# Altium integrated library Xilinx PLD XC9500XL.IntLib: 85 symbols (part 1 of 5)
Pins are listed as number, name and electrical type; pins without a type are passive.

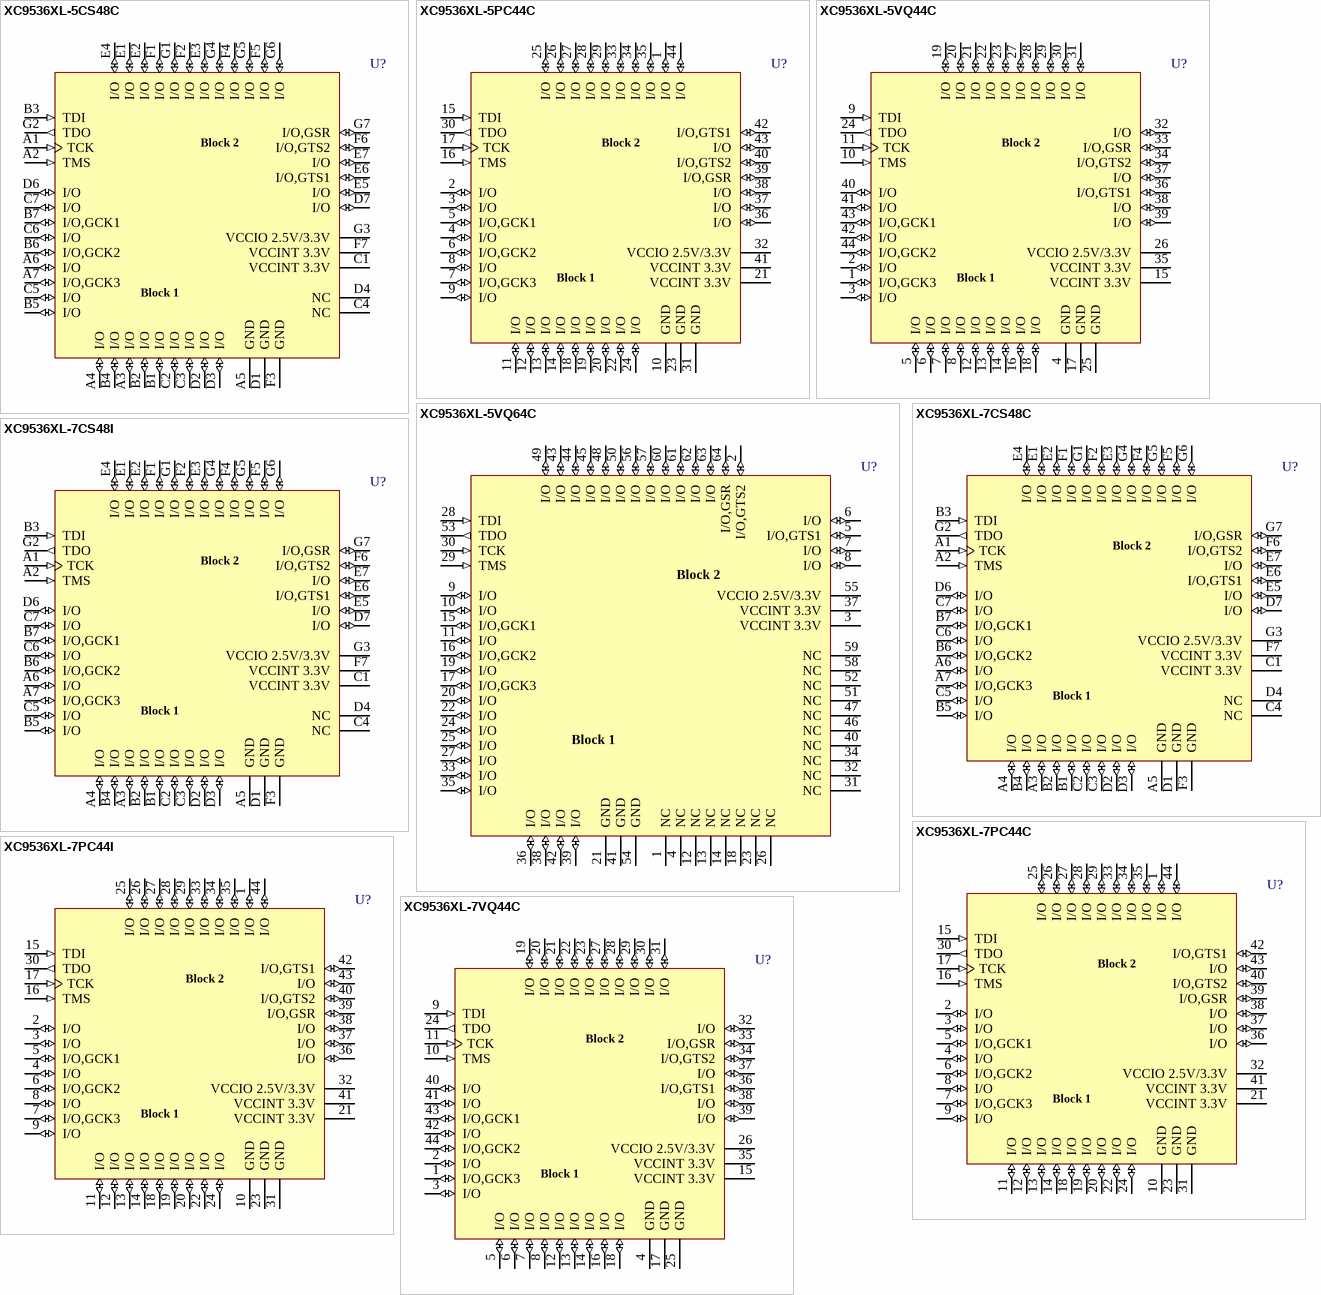
[diagram p0: symbols XC9536XL-5CS48C to XC9536XL-7VQ44C]

## XC9536XL-5CS48C
designator U?
FastFLASH XC900XL, 3.3V High-Performance CPLD with 36 Macrocells, 48-Ball CSBGA, Commercial Grade; PackageDocument: ver1.1, Apr-2001; Published: 17-Jul-2002; DatasheetDocument: ver1.4, Aug-2003; PackageReference: CS48; Publisher: Altium Limited
footprint CS48 (48-Ball Chip Scale Ball Grid Array (CS48))
3D model XC9536XL-CS48 (48-Ball Chip Scale Ball Grid Array (CS48))
signal-integrity model XC9536XL_CS48 (XC9500XL)
pins: A1 TCK (in), A2 TMS (in), A3 I/O (io), A4 I/O (io), A5 GND (power), A6 I/O (io), A7 I/O,GCK3 (io), B1 I/O (io), B2 I/O (io), B3 TDI (in), B4 I/O (io), B5 I/O (io), B6 I/O,GCK2 (io), B7 I/O,GCK1 (io), C1 VCCINT 3.3V (power), C2 I/O (io), C3 I/O (io), C4 NC, C5 I/O (io), C6 I/O (io), C7 I/O (io), D1 GND (power), D2 I/O (io), D3 I/O (io), D4 NC, D6 I/O (io), D7 I/O (io), E1 I/O (io), E2 I/O (io), E3 I/O (io), E4 I/O (io), E5 I/O (io), E6 I/O,GTS1 (io), E7 I/O (io), F1 I/O (io), F2 I/O (io), F3 GND (power), F4 I/O (io), F5 I/O (io), F6 I/O,GTS2 (io), F7 VCCINT 3.3V (power), G1 I/O (io), G2 TDO (out), G3 VCCIO 2.5V/3.3V (power), G4 I/O (io), G5 I/O (io), G6 I/O (io), G7 I/O,GSR (io)
text: Block 2; Block 1

## XC9536XL-5PC44C
designator U?
FastFLASH XC900XL, 3.3V High-Performance CPLD with 36 Macrocells, 44-Pin PLCC, Commercial Grade; PackageDocument: ver1.0, Jun-2000; Published: 17-Jul-2002; DatasheetDocument: ver1.4, Aug-2003; PackageReference: PC44; Publisher: Altium Limited; Code_JEDEC: MS-047; Code_IPC: PLCC-44
footprint PC44 (44-Pin Plastic Leaded Chip Carrier (PC44))
3D model XC9536XL-PC44 (44-Pin Plastic Leaded Chip Carrier (PC44))
signal-integrity model XC9536XL_PLCC44 (XC9500XL)
pins: 1 I/O (io), 2 I/O (io), 3 I/O (io), 4 I/O (io), 5 I/O,GCK1 (io), 6 I/O,GCK2 (io), 7 I/O,GCK3 (io), 8 I/O (io), 9 I/O (io), 10 GND (power), 11 I/O (io), 12 I/O (io), 13 I/O (io), 14 I/O (io), 15 TDI (in), 16 TMS (in), 17 TCK (in), 18 I/O (io), 19 I/O (io), 20 I/O (io), 21 VCCINT 3.3V (power), 22 I/O (io), 23 GND (power), 24 I/O (io), 25 I/O (io), 26 I/O (io), 27 I/O (io), 28 I/O (io), 29 I/O (io), 30 TDO (out), 31 GND (power), 32 VCCIO 2.5V/3.3V (power), 33 I/O (io), 34 I/O (io), 35 I/O (io), 36 I/O (io), 37 I/O (io), 38 I/O (io), 39 I/O,GSR (io), 40 I/O,GTS2 (io), 41 VCCINT 3.3V (power), 42 I/O,GTS1 (io), 43 I/O (io), 44 I/O (io)
text: Block 2; Block 1

## XC9536XL-5VQ44C
designator U?
FastFLASH XC900XL, 3.3V High-Performance CPLD with 36 Macrocells, 44-Pin VQFP, Commercial Grade; PackageDocument: ver1.1, Oct-2002; Published: 17-Jul-2002; DatasheetDocument: ver1.4, Aug-2003; PackageReference: VQ44; Publisher: Altium Limited; Code_JEDEC: MS-026-ACB
footprint VQ44 (44-Pin Very Thin Quad Flat Pack (VQ44))
3D model XC9536XL-VQ44 (44-Pin Very Thin Quad Flat Pack (VQ44))
signal-integrity model XC9536XL_VQ44 (XC9500XL)
pins: 1 I/O,GCK3 (io), 2 I/O (io), 3 I/O (io), 4 GND (power), 5 I/O (io), 6 I/O (io), 7 I/O (io), 8 I/O (io), 9 TDI (in), 10 TMS (in), 11 TCK (in), 12 I/O (io), 13 I/O (io), 14 I/O (io), 15 VCCINT 3.3V (power), 16 I/O (io), 17 GND (power), 18 I/O (io), 19 I/O (io), 20 I/O (io), 21 I/O (io), 22 I/O (io), 23 I/O (io), 24 TDO (out), 25 GND (power), 26 VCCIO 2.5V/3.3V (power), 27 I/O (io), 28 I/O (io), 29 I/O (io), 30 I/O (io), 31 I/O (io), 32 I/O (io), 33 I/O,GSR (io), 34 I/O,GTS2 (io), 35 VCCINT 3.3V (power), 36 I/O,GTS1 (io), 37 I/O (io), 38 I/O (io), 39 I/O (io), 40 I/O (io), 41 I/O (io), 42 I/O (io), 43 I/O,GCK1 (io), 44 I/O,GCK2 (io)
text: Block 2; Block 1

## XC9536XL-5VQ64C
designator U?
FastFLASH XC900XL, 3.3V High-Performance CPLD with 36 Macrocells, 64-Pin VQFP, Commercial Grade; PackageDocument: ver1.1, Oct-2002; Published: 17-Jul-2002; DatasheetDocument: ver1.4, Aug-2003; PackageReference: VQ64; Publisher: Altium Limited; Code_JEDEC: MS-026-ACD
footprint VQ64 (64-Pin Very Thin Quad Flat Pack (VQ64))
3D model XC9536XL-VQ64 (64-Pin Very Thin Quad Flat Pack (VQ64))
signal-integrity model XC9536XL_VQ64 (XC9500XL)
pins: 1 NC, 2 I/O,GTS2 (io), 3 VCCINT 3.3V (power), 4 NC, 5 I/O,GTS1 (io), 6 I/O (io), 7 I/O (io), 8 I/O (io), 9 I/O (io), 10 I/O (io), 11 I/O (io), 12 NC, 13 NC, 14 NC, 15 I/O,GCK1 (io), 16 I/O,GCK2 (io), 17 I/O,GCK3 (io), 18 NC, 19 I/O (io), 20 I/O (io), 21 GND (power), 22 I/O (io), 23 NC, 24 I/O (io), 25 I/O (io), 26 NC, 27 I/O (io), 28 TDI (in), 29 TMS (in), 30 TCK (in), 31 NC, 32 NC, 33 I/O (io), 34 NC, 35 I/O (io), 36 I/O (io), 37 VCCINT 3.3V (power), 38 I/O (io), 39 I/O (io), 40 NC, 41 GND (power), 42 I/O (io), 43 I/O (io), 44 I/O (io), 45 I/O (io), 46 NC, 47 NC, 48 I/O (io), 49 I/O (io), 50 I/O (io), 51 NC, 52 NC, 53 TDO (out), 54 GND (power), 55 VCCIO 2.5V/3.3V (power), 56 I/O (io), 57 I/O (io), 58 NC, 59 NC, 60 I/O (io), 61 I/O (io), 62 I/O (io), 63 I/O (io), 64 I/O,GSR (io)
text: Block 2; Block 1

## XC9536XL-7CS48C
designator U?
FastFLASH XC900XL, 3.3V High-Performance CPLD with 36 Macrocells, 48-Ball CSBGA, Commercial Grade; PackageDocument: ver1.1, Apr-2001; Published: 17-Jul-2002; DatasheetDocument: ver1.4, Aug-2003; PackageReference: CS48; Publisher: Altium Limited
footprint CS48 (48-Ball Chip Scale Ball Grid Array (CS48))
3D model XC9536XL-CS48 (48-Ball Chip Scale Ball Grid Array (CS48))
signal-integrity model XC9536XL_CS48 (XC9500XL)
pins: A1 TCK (in), A2 TMS (in), A3 I/O (io), A4 I/O (io), A5 GND (power), A6 I/O (io), A7 I/O,GCK3 (io), B1 I/O (io), B2 I/O (io), B3 TDI (in), B4 I/O (io), B5 I/O (io), B6 I/O,GCK2 (io), B7 I/O,GCK1 (io), C1 VCCINT 3.3V (power), C2 I/O (io), C3 I/O (io), C4 NC, C5 I/O (io), C6 I/O (io), C7 I/O (io), D1 GND (power), D2 I/O (io), D3 I/O (io), D4 NC, D6 I/O (io), D7 I/O (io), E1 I/O (io), E2 I/O (io), E3 I/O (io), E4 I/O (io), E5 I/O (io), E6 I/O,GTS1 (io), E7 I/O (io), F1 I/O (io), F2 I/O (io), F3 GND (power), F4 I/O (io), F5 I/O (io), F6 I/O,GTS2 (io), F7 VCCINT 3.3V (power), G1 I/O (io), G2 TDO (out), G3 VCCIO 2.5V/3.3V (power), G4 I/O (io), G5 I/O (io), G6 I/O (io), G7 I/O,GSR (io)
text: Block 2; Block 1

## XC9536XL-7CS48I
designator U?
FastFLASH XC900XL, 3.3V High-Performance CPLD with 36 Macrocells, 48-Ball CSBGA, Industrial Grade; PackageDocument: ver1.1, Apr-2001; Published: 17-Jul-2002; DatasheetDocument: ver1.4, Aug-2003; PackageReference: CS48; Publisher: Altium Limited
footprint CS48 (48-Ball Chip Scale Ball Grid Array (CS48))
3D model XC9536XL-CS48 (48-Ball Chip Scale Ball Grid Array (CS48))
signal-integrity model XC9536XL_CS48 (XC9500XL)
pins: A1 TCK (in), A2 TMS (in), A3 I/O (io), A4 I/O (io), A5 GND (power), A6 I/O (io), A7 I/O,GCK3 (io), B1 I/O (io), B2 I/O (io), B3 TDI (in), B4 I/O (io), B5 I/O (io), B6 I/O,GCK2 (io), B7 I/O,GCK1 (io), C1 VCCINT 3.3V (power), C2 I/O (io), C3 I/O (io), C4 NC, C5 I/O (io), C6 I/O (io), C7 I/O (io), D1 GND (power), D2 I/O (io), D3 I/O (io), D4 NC, D6 I/O (io), D7 I/O (io), E1 I/O (io), E2 I/O (io), E3 I/O (io), E4 I/O (io), E5 I/O (io), E6 I/O,GTS1 (io), E7 I/O (io), F1 I/O (io), F2 I/O (io), F3 GND (power), F4 I/O (io), F5 I/O (io), F6 I/O,GTS2 (io), F7 VCCINT 3.3V (power), G1 I/O (io), G2 TDO (out), G3 VCCIO 2.5V/3.3V (power), G4 I/O (io), G5 I/O (io), G6 I/O (io), G7 I/O,GSR (io)
text: Block 2; Block 1

## XC9536XL-7PC44C
designator U?
FastFLASH XC900XL, 3.3V High-Performance CPLD with 36 Macrocells, 44-Pin PLCC, Commercial Grade; PackageDocument: ver1.0, Jun-2000; Published: 17-Jul-2002; DatasheetDocument: ver1.4, Aug-2003; PackageReference: PC44; Publisher: Altium Limited; Code_JEDEC: MS-047; Code_IPC: PLCC-44
footprint PC44 (44-Pin Plastic Leaded Chip Carrier (PC44))
3D model XC9536XL-PC44 (44-Pin Plastic Leaded Chip Carrier (PC44))
signal-integrity model XC9536XL_PLCC44 (XC9500XL)
pins: 1 I/O (io), 2 I/O (io), 3 I/O (io), 4 I/O (io), 5 I/O,GCK1 (io), 6 I/O,GCK2 (io), 7 I/O,GCK3 (io), 8 I/O (io), 9 I/O (io), 10 GND (power), 11 I/O (io), 12 I/O (io), 13 I/O (io), 14 I/O (io), 15 TDI (in), 16 TMS (in), 17 TCK (in), 18 I/O (io), 19 I/O (io), 20 I/O (io), 21 VCCINT 3.3V (power), 22 I/O (io), 23 GND (power), 24 I/O (io), 25 I/O (io), 26 I/O (io), 27 I/O (io), 28 I/O (io), 29 I/O (io), 30 TDO (out), 31 GND (power), 32 VCCIO 2.5V/3.3V (power), 33 I/O (io), 34 I/O (io), 35 I/O (io), 36 I/O (io), 37 I/O (io), 38 I/O (io), 39 I/O,GSR (io), 40 I/O,GTS2 (io), 41 VCCINT 3.3V (power), 42 I/O,GTS1 (io), 43 I/O (io), 44 I/O (io)
text: Block 2; Block 1

## XC9536XL-7PC44I
designator U?
FastFLASH XC900XL, 3.3V High-Performance CPLD with 36 Macrocells, 44-Pin PLCC, Industrial Grade; PackageDocument: ver1.0, Jun-2000; Published: 17-Jul-2002; DatasheetDocument: ver1.4, Aug-2003; PackageReference: PC44; Publisher: Altium Limited; Code_JEDEC: MS-047; Code_IPC: PLCC-44
footprint PC44 (44-Pin Plastic Leaded Chip Carrier (PC44))
3D model XC9536XL-PC44 (44-Pin Plastic Leaded Chip Carrier (PC44))
signal-integrity model XC9536XL_PLCC44 (XC9500XL)
pins: 1 I/O (io), 2 I/O (io), 3 I/O (io), 4 I/O (io), 5 I/O,GCK1 (io), 6 I/O,GCK2 (io), 7 I/O,GCK3 (io), 8 I/O (io), 9 I/O (io), 10 GND (power), 11 I/O (io), 12 I/O (io), 13 I/O (io), 14 I/O (io), 15 TDI (in), 16 TMS (in), 17 TCK (in), 18 I/O (io), 19 I/O (io), 20 I/O (io), 21 VCCINT 3.3V (power), 22 I/O (io), 23 GND (power), 24 I/O (io), 25 I/O (io), 26 I/O (io), 27 I/O (io), 28 I/O (io), 29 I/O (io), 30 TDO (out), 31 GND (power), 32 VCCIO 2.5V/3.3V (power), 33 I/O (io), 34 I/O (io), 35 I/O (io), 36 I/O (io), 37 I/O (io), 38 I/O (io), 39 I/O,GSR (io), 40 I/O,GTS2 (io), 41 VCCINT 3.3V (power), 42 I/O,GTS1 (io), 43 I/O (io), 44 I/O (io)
text: Block 2; Block 1

## XC9536XL-7VQ44C
designator U?
FastFLASH XC900XL, 3.3V High-Performance CPLD with 36 Macrocells, 44-Pin VQFP, Commercial Grade; PackageDocument: ver1.1, Oct-2002; Published: 17-Jul-2002; DatasheetDocument: ver1.4, Aug-2003; PackageReference: VQ44; Publisher: Altium Limited; Code_JEDEC: MS-026-ACB
footprint VQ44 (44-Pin Very Thin Quad Flat Pack (VQ44))
3D model XC9536XL-VQ44 (44-Pin Very Thin Quad Flat Pack (VQ44))
signal-integrity model XC9536XL_VQ44 (XC9500XL)
pins: 1 I/O,GCK3 (io), 2 I/O (io), 3 I/O (io), 4 GND (power), 5 I/O (io), 6 I/O (io), 7 I/O (io), 8 I/O (io), 9 TDI (in), 10 TMS (in), 11 TCK (in), 12 I/O (io), 13 I/O (io), 14 I/O (io), 15 VCCINT 3.3V (power), 16 I/O (io), 17 GND (power), 18 I/O (io), 19 I/O (io), 20 I/O (io), 21 I/O (io), 22 I/O (io), 23 I/O (io), 24 TDO (out), 25 GND (power), 26 VCCIO 2.5V/3.3V (power), 27 I/O (io), 28 I/O (io), 29 I/O (io), 30 I/O (io), 31 I/O (io), 32 I/O (io), 33 I/O,GSR (io), 34 I/O,GTS2 (io), 35 VCCINT 3.3V (power), 36 I/O,GTS1 (io), 37 I/O (io), 38 I/O (io), 39 I/O (io), 40 I/O (io), 41 I/O (io), 42 I/O (io), 43 I/O,GCK1 (io), 44 I/O,GCK2 (io)
text: Block 2; Block 1

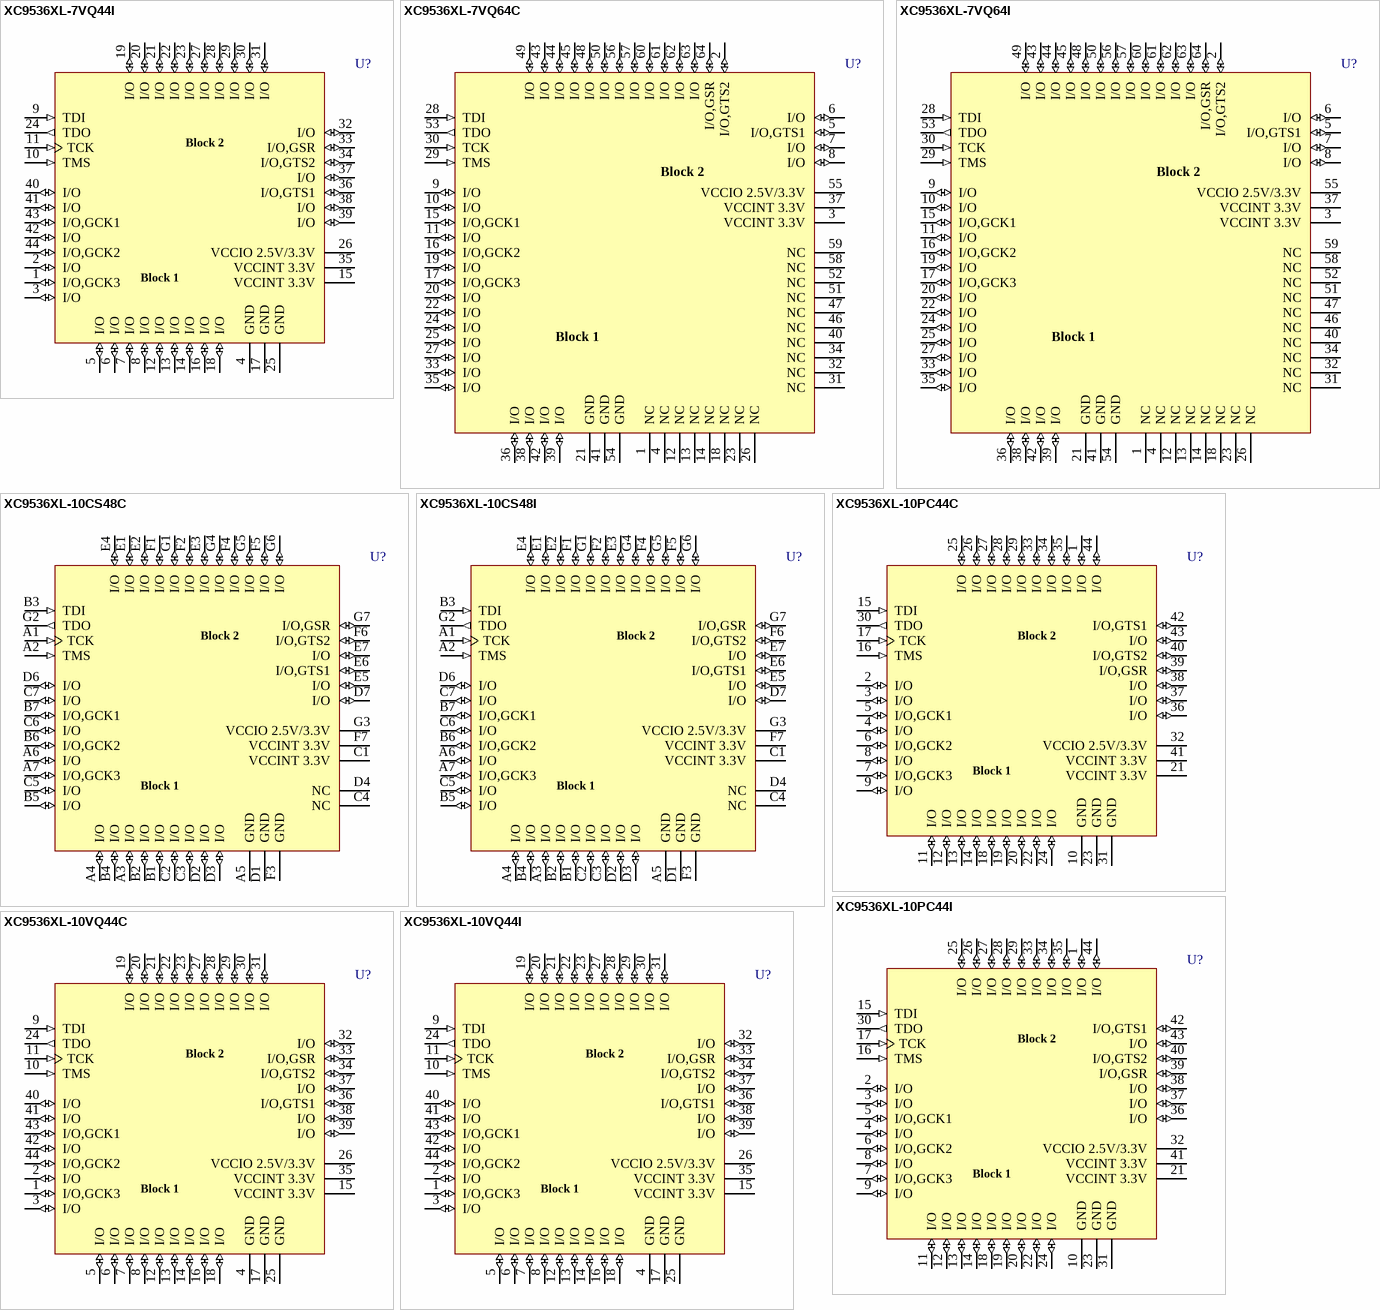
[diagram p1: symbols XC9536XL-7VQ44I to XC9536XL-10VQ44I]

## XC9536XL-7VQ44I
designator U?
FastFLASH XC900XL, 3.3V High-Performance CPLD with 36 Macrocells, 44-Pin VQFP, Industrial Grade; PackageDocument: ver1.1, Oct-2002; Published: 17-Jul-2002; DatasheetDocument: ver1.4, Aug-2003; PackageReference: VQ44; Publisher: Altium Limited; Code_JEDEC: MS-026-ACB
footprint VQ44 (44-Pin Very Thin Quad Flat Pack (VQ44))
3D model XC9536XL-VQ44 (44-Pin Very Thin Quad Flat Pack (VQ44))
signal-integrity model XC9536XL_VQ44 (XC9500XL)
pins: 1 I/O,GCK3 (io), 2 I/O (io), 3 I/O (io), 4 GND (power), 5 I/O (io), 6 I/O (io), 7 I/O (io), 8 I/O (io), 9 TDI (in), 10 TMS (in), 11 TCK (in), 12 I/O (io), 13 I/O (io), 14 I/O (io), 15 VCCINT 3.3V (power), 16 I/O (io), 17 GND (power), 18 I/O (io), 19 I/O (io), 20 I/O (io), 21 I/O (io), 22 I/O (io), 23 I/O (io), 24 TDO (out), 25 GND (power), 26 VCCIO 2.5V/3.3V (power), 27 I/O (io), 28 I/O (io), 29 I/O (io), 30 I/O (io), 31 I/O (io), 32 I/O (io), 33 I/O,GSR (io), 34 I/O,GTS2 (io), 35 VCCINT 3.3V (power), 36 I/O,GTS1 (io), 37 I/O (io), 38 I/O (io), 39 I/O (io), 40 I/O (io), 41 I/O (io), 42 I/O (io), 43 I/O,GCK1 (io), 44 I/O,GCK2 (io)
text: Block 2; Block 1

## XC9536XL-7VQ64C
designator U?
FastFLASH XC900XL, 3.3V High-Performance CPLD with 36 Macrocells, 64-Pin VQFP, Commercial Grade; PackageDocument: ver1.1, Oct-2002; Published: 17-Jul-2002; DatasheetDocument: ver1.4, Aug-2003; PackageReference: VQ64; Publisher: Altium Limited; Code_JEDEC: MS-026-ACD
footprint VQ64 (64-Pin Very Thin Quad Flat Pack (VQ64))
3D model XC9536XL-VQ64 (64-Pin Very Thin Quad Flat Pack (VQ64))
signal-integrity model XC9536XL_VQ64 (XC9500XL)
pins: 1 NC, 2 I/O,GTS2 (io), 3 VCCINT 3.3V (power), 4 NC, 5 I/O,GTS1 (io), 6 I/O (io), 7 I/O (io), 8 I/O (io), 9 I/O (io), 10 I/O (io), 11 I/O (io), 12 NC, 13 NC, 14 NC, 15 I/O,GCK1 (io), 16 I/O,GCK2 (io), 17 I/O,GCK3 (io), 18 NC, 19 I/O (io), 20 I/O (io), 21 GND (power), 22 I/O (io), 23 NC, 24 I/O (io), 25 I/O (io), 26 NC, 27 I/O (io), 28 TDI (in), 29 TMS (in), 30 TCK (in), 31 NC, 32 NC, 33 I/O (io), 34 NC, 35 I/O (io), 36 I/O (io), 37 VCCINT 3.3V (power), 38 I/O (io), 39 I/O (io), 40 NC, 41 GND (power), 42 I/O (io), 43 I/O (io), 44 I/O (io), 45 I/O (io), 46 NC, 47 NC, 48 I/O (io), 49 I/O (io), 50 I/O (io), 51 NC, 52 NC, 53 TDO (out), 54 GND (power), 55 VCCIO 2.5V/3.3V (power), 56 I/O (io), 57 I/O (io), 58 NC, 59 NC, 60 I/O (io), 61 I/O (io), 62 I/O (io), 63 I/O (io), 64 I/O,GSR (io)
text: Block 2; Block 1

## XC9536XL-7VQ64I
designator U?
FastFLASH XC900XL, 3.3V High-Performance CPLD with 36 Macrocells, 64-Pin VQFP, Industrial Grade; PackageDocument: ver1.1, Oct-2002; Published: 17-Jul-2002; DatasheetDocument: ver1.4, Aug-2003; PackageReference: VQ64; Publisher: Altium Limited; Code_JEDEC: MS-026-ACD
footprint VQ64 (64-Pin Very Thin Quad Flat Pack (VQ64))
3D model XC9536XL-VQ64 (64-Pin Very Thin Quad Flat Pack (VQ64))
signal-integrity model XC9536XL_VQ64 (XC9500XL)
pins: 1 NC, 2 I/O,GTS2 (io), 3 VCCINT 3.3V (power), 4 NC, 5 I/O,GTS1 (io), 6 I/O (io), 7 I/O (io), 8 I/O (io), 9 I/O (io), 10 I/O (io), 11 I/O (io), 12 NC, 13 NC, 14 NC, 15 I/O,GCK1 (io), 16 I/O,GCK2 (io), 17 I/O,GCK3 (io), 18 NC, 19 I/O (io), 20 I/O (io), 21 GND (power), 22 I/O (io), 23 NC, 24 I/O (io), 25 I/O (io), 26 NC, 27 I/O (io), 28 TDI (in), 29 TMS (in), 30 TCK (in), 31 NC, 32 NC, 33 I/O (io), 34 NC, 35 I/O (io), 36 I/O (io), 37 VCCINT 3.3V (power), 38 I/O (io), 39 I/O (io), 40 NC, 41 GND (power), 42 I/O (io), 43 I/O (io), 44 I/O (io), 45 I/O (io), 46 NC, 47 NC, 48 I/O (io), 49 I/O (io), 50 I/O (io), 51 NC, 52 NC, 53 TDO (out), 54 GND (power), 55 VCCIO 2.5V/3.3V (power), 56 I/O (io), 57 I/O (io), 58 NC, 59 NC, 60 I/O (io), 61 I/O (io), 62 I/O (io), 63 I/O (io), 64 I/O,GSR (io)
text: Block 2; Block 1

## XC9536XL-10CS48C
designator U?
FastFLASH XC900XL, 3.3V High-Performance CPLD with 36 Macrocells, 48-Ball CSBGA, Commercial Grade; PackageDocument: ver1.1, Apr-2001; Published: 17-Jul-2002; DatasheetDocument: ver1.4, Aug-2003; PackageReference: CS48; Publisher: Altium Limited
footprint CS48 (48-Ball Chip Scale Ball Grid Array (CS48))
3D model XC9536XL-CS48 (48-Ball Chip Scale Ball Grid Array (CS48))
signal-integrity model XC9536XL_CS48 (XC9500XL)
pins: A1 TCK (in), A2 TMS (in), A3 I/O (io), A4 I/O (io), A5 GND (power), A6 I/O (io), A7 I/O,GCK3 (io), B1 I/O (io), B2 I/O (io), B3 TDI (in), B4 I/O (io), B5 I/O (io), B6 I/O,GCK2 (io), B7 I/O,GCK1 (io), C1 VCCINT 3.3V (power), C2 I/O (io), C3 I/O (io), C4 NC, C5 I/O (io), C6 I/O (io), C7 I/O (io), D1 GND (power), D2 I/O (io), D3 I/O (io), D4 NC, D6 I/O (io), D7 I/O (io), E1 I/O (io), E2 I/O (io), E3 I/O (io), E4 I/O (io), E5 I/O (io), E6 I/O,GTS1 (io), E7 I/O (io), F1 I/O (io), F2 I/O (io), F3 GND (power), F4 I/O (io), F5 I/O (io), F6 I/O,GTS2 (io), F7 VCCINT 3.3V (power), G1 I/O (io), G2 TDO (out), G3 VCCIO 2.5V/3.3V (power), G4 I/O (io), G5 I/O (io), G6 I/O (io), G7 I/O,GSR (io)
text: Block 2; Block 1

## XC9536XL-10CS48I
designator U?
FastFLASH XC900XL, 3.3V High-Performance CPLD with 36 Macrocells, 48-Ball CSBGA, Industrial Grade; PackageDocument: ver1.1, Apr-2001; Published: 17-Jul-2002; DatasheetDocument: ver1.4, Aug-2003; PackageReference: CS48; Publisher: Altium Limited
footprint CS48 (48-Ball Chip Scale Ball Grid Array (CS48))
3D model XC9536XL-CS48 (48-Ball Chip Scale Ball Grid Array (CS48))
signal-integrity model XC9536XL_CS48 (XC9500XL)
pins: A1 TCK (in), A2 TMS (in), A3 I/O (io), A4 I/O (io), A5 GND (power), A6 I/O (io), A7 I/O,GCK3 (io), B1 I/O (io), B2 I/O (io), B3 TDI (in), B4 I/O (io), B5 I/O (io), B6 I/O,GCK2 (io), B7 I/O,GCK1 (io), C1 VCCINT 3.3V (power), C2 I/O (io), C3 I/O (io), C4 NC, C5 I/O (io), C6 I/O (io), C7 I/O (io), D1 GND (power), D2 I/O (io), D3 I/O (io), D4 NC, D6 I/O (io), D7 I/O (io), E1 I/O (io), E2 I/O (io), E3 I/O (io), E4 I/O (io), E5 I/O (io), E6 I/O,GTS1 (io), E7 I/O (io), F1 I/O (io), F2 I/O (io), F3 GND (power), F4 I/O (io), F5 I/O (io), F6 I/O,GTS2 (io), F7 VCCINT 3.3V (power), G1 I/O (io), G2 TDO (out), G3 VCCIO 2.5V/3.3V (power), G4 I/O (io), G5 I/O (io), G6 I/O (io), G7 I/O,GSR (io)
text: Block 2; Block 1

## XC9536XL-10PC44C
designator U?
FastFLASH XC900XL, 3.3V High-Performance CPLD with 36 Macrocells, 44-Pin PLCC, Commercial Grade; PackageDocument: ver1.0, Jun-2000; Published: 17-Jul-2002; DatasheetDocument: ver1.4, Aug-2003; PackageReference: PC44; Publisher: Altium Limited; Code_JEDEC: MS-047; Code_IPC: PLCC-44
footprint PC44 (44-Pin Plastic Leaded Chip Carrier (PC44))
3D model XC9536XL-PC44 (44-Pin Plastic Leaded Chip Carrier (PC44))
signal-integrity model XC9536XL_PLCC44 (XC9500XL)
pins: 1 I/O (io), 2 I/O (io), 3 I/O (io), 4 I/O (io), 5 I/O,GCK1 (io), 6 I/O,GCK2 (io), 7 I/O,GCK3 (io), 8 I/O (io), 9 I/O (io), 10 GND (power), 11 I/O (io), 12 I/O (io), 13 I/O (io), 14 I/O (io), 15 TDI (in), 16 TMS (in), 17 TCK (in), 18 I/O (io), 19 I/O (io), 20 I/O (io), 21 VCCINT 3.3V (power), 22 I/O (io), 23 GND (power), 24 I/O (io), 25 I/O (io), 26 I/O (io), 27 I/O (io), 28 I/O (io), 29 I/O (io), 30 TDO (out), 31 GND (power), 32 VCCIO 2.5V/3.3V (power), 33 I/O (io), 34 I/O (io), 35 I/O (io), 36 I/O (io), 37 I/O (io), 38 I/O (io), 39 I/O,GSR (io), 40 I/O,GTS2 (io), 41 VCCINT 3.3V (power), 42 I/O,GTS1 (io), 43 I/O (io), 44 I/O (io)
text: Block 2; Block 1

## XC9536XL-10PC44I
designator U?
FastFLASH XC900XL, 3.3V High-Performance CPLD with 36 Macrocells, 44-Pin PLCC, Industrial Grade; PackageDocument: ver1.0, Jun-2000; Published: 17-Jul-2002; DatasheetDocument: ver1.4, Aug-2003; PackageReference: PC44; Publisher: Altium Limited; Code_JEDEC: MS-047; Code_IPC: PLCC-44
footprint PC44 (44-Pin Plastic Leaded Chip Carrier (PC44))
3D model XC9536XL-PC44 (44-Pin Plastic Leaded Chip Carrier (PC44))
signal-integrity model XC9536XL_PLCC44 (XC9500XL)
pins: 1 I/O (io), 2 I/O (io), 3 I/O (io), 4 I/O (io), 5 I/O,GCK1 (io), 6 I/O,GCK2 (io), 7 I/O,GCK3 (io), 8 I/O (io), 9 I/O (io), 10 GND (power), 11 I/O (io), 12 I/O (io), 13 I/O (io), 14 I/O (io), 15 TDI (in), 16 TMS (in), 17 TCK (in), 18 I/O (io), 19 I/O (io), 20 I/O (io), 21 VCCINT 3.3V (power), 22 I/O (io), 23 GND (power), 24 I/O (io), 25 I/O (io), 26 I/O (io), 27 I/O (io), 28 I/O (io), 29 I/O (io), 30 TDO (out), 31 GND (power), 32 VCCIO 2.5V/3.3V (power), 33 I/O (io), 34 I/O (io), 35 I/O (io), 36 I/O (io), 37 I/O (io), 38 I/O (io), 39 I/O,GSR (io), 40 I/O,GTS2 (io), 41 VCCINT 3.3V (power), 42 I/O,GTS1 (io), 43 I/O (io), 44 I/O (io)
text: Block 2; Block 1

## XC9536XL-10VQ44C
designator U?
FastFLASH XC900XL, 3.3V High-Performance CPLD with 36 Macrocells, 44-Pin VQFP, Commercial Grade; PackageDocument: ver1.1, Oct-2002; Published: 17-Jul-2002; DatasheetDocument: ver1.4, Aug-2003; PackageReference: VQ44; Publisher: Altium Limited; Code_JEDEC: MS-026-ACB
footprint VQ44 (44-Pin Very Thin Quad Flat Pack (VQ44))
3D model XC9536XL-VQ44 (44-Pin Very Thin Quad Flat Pack (VQ44))
signal-integrity model XC9536XL_VQ44 (XC9500XL)
pins: 1 I/O,GCK3 (io), 2 I/O (io), 3 I/O (io), 4 GND (power), 5 I/O (io), 6 I/O (io), 7 I/O (io), 8 I/O (io), 9 TDI (in), 10 TMS (in), 11 TCK (in), 12 I/O (io), 13 I/O (io), 14 I/O (io), 15 VCCINT 3.3V (power), 16 I/O (io), 17 GND (power), 18 I/O (io), 19 I/O (io), 20 I/O (io), 21 I/O (io), 22 I/O (io), 23 I/O (io), 24 TDO (out), 25 GND (power), 26 VCCIO 2.5V/3.3V (power), 27 I/O (io), 28 I/O (io), 29 I/O (io), 30 I/O (io), 31 I/O (io), 32 I/O (io), 33 I/O,GSR (io), 34 I/O,GTS2 (io), 35 VCCINT 3.3V (power), 36 I/O,GTS1 (io), 37 I/O (io), 38 I/O (io), 39 I/O (io), 40 I/O (io), 41 I/O (io), 42 I/O (io), 43 I/O,GCK1 (io), 44 I/O,GCK2 (io)
text: Block 2; Block 1

## XC9536XL-10VQ44I
designator U?
FastFLASH XC900XL, 3.3V High-Performance CPLD with 36 Macrocells, 44-Pin VQFP, Industrial Grade; PackageDocument: ver1.1, Oct-2002; Published: 17-Jul-2002; DatasheetDocument: ver1.4, Aug-2003; PackageReference: VQ44; Publisher: Altium Limited; Code_JEDEC: MS-026-ACB
footprint VQ44 (44-Pin Very Thin Quad Flat Pack (VQ44))
3D model XC9536XL-VQ44 (44-Pin Very Thin Quad Flat Pack (VQ44))
signal-integrity model XC9536XL_VQ44 (XC9500XL)
pins: 1 I/O,GCK3 (io), 2 I/O (io), 3 I/O (io), 4 GND (power), 5 I/O (io), 6 I/O (io), 7 I/O (io), 8 I/O (io), 9 TDI (in), 10 TMS (in), 11 TCK (in), 12 I/O (io), 13 I/O (io), 14 I/O (io), 15 VCCINT 3.3V (power), 16 I/O (io), 17 GND (power), 18 I/O (io), 19 I/O (io), 20 I/O (io), 21 I/O (io), 22 I/O (io), 23 I/O (io), 24 TDO (out), 25 GND (power), 26 VCCIO 2.5V/3.3V (power), 27 I/O (io), 28 I/O (io), 29 I/O (io), 30 I/O (io), 31 I/O (io), 32 I/O (io), 33 I/O,GSR (io), 34 I/O,GTS2 (io), 35 VCCINT 3.3V (power), 36 I/O,GTS1 (io), 37 I/O (io), 38 I/O (io), 39 I/O (io), 40 I/O (io), 41 I/O (io), 42 I/O (io), 43 I/O,GCK1 (io), 44 I/O,GCK2 (io)
text: Block 2; Block 1

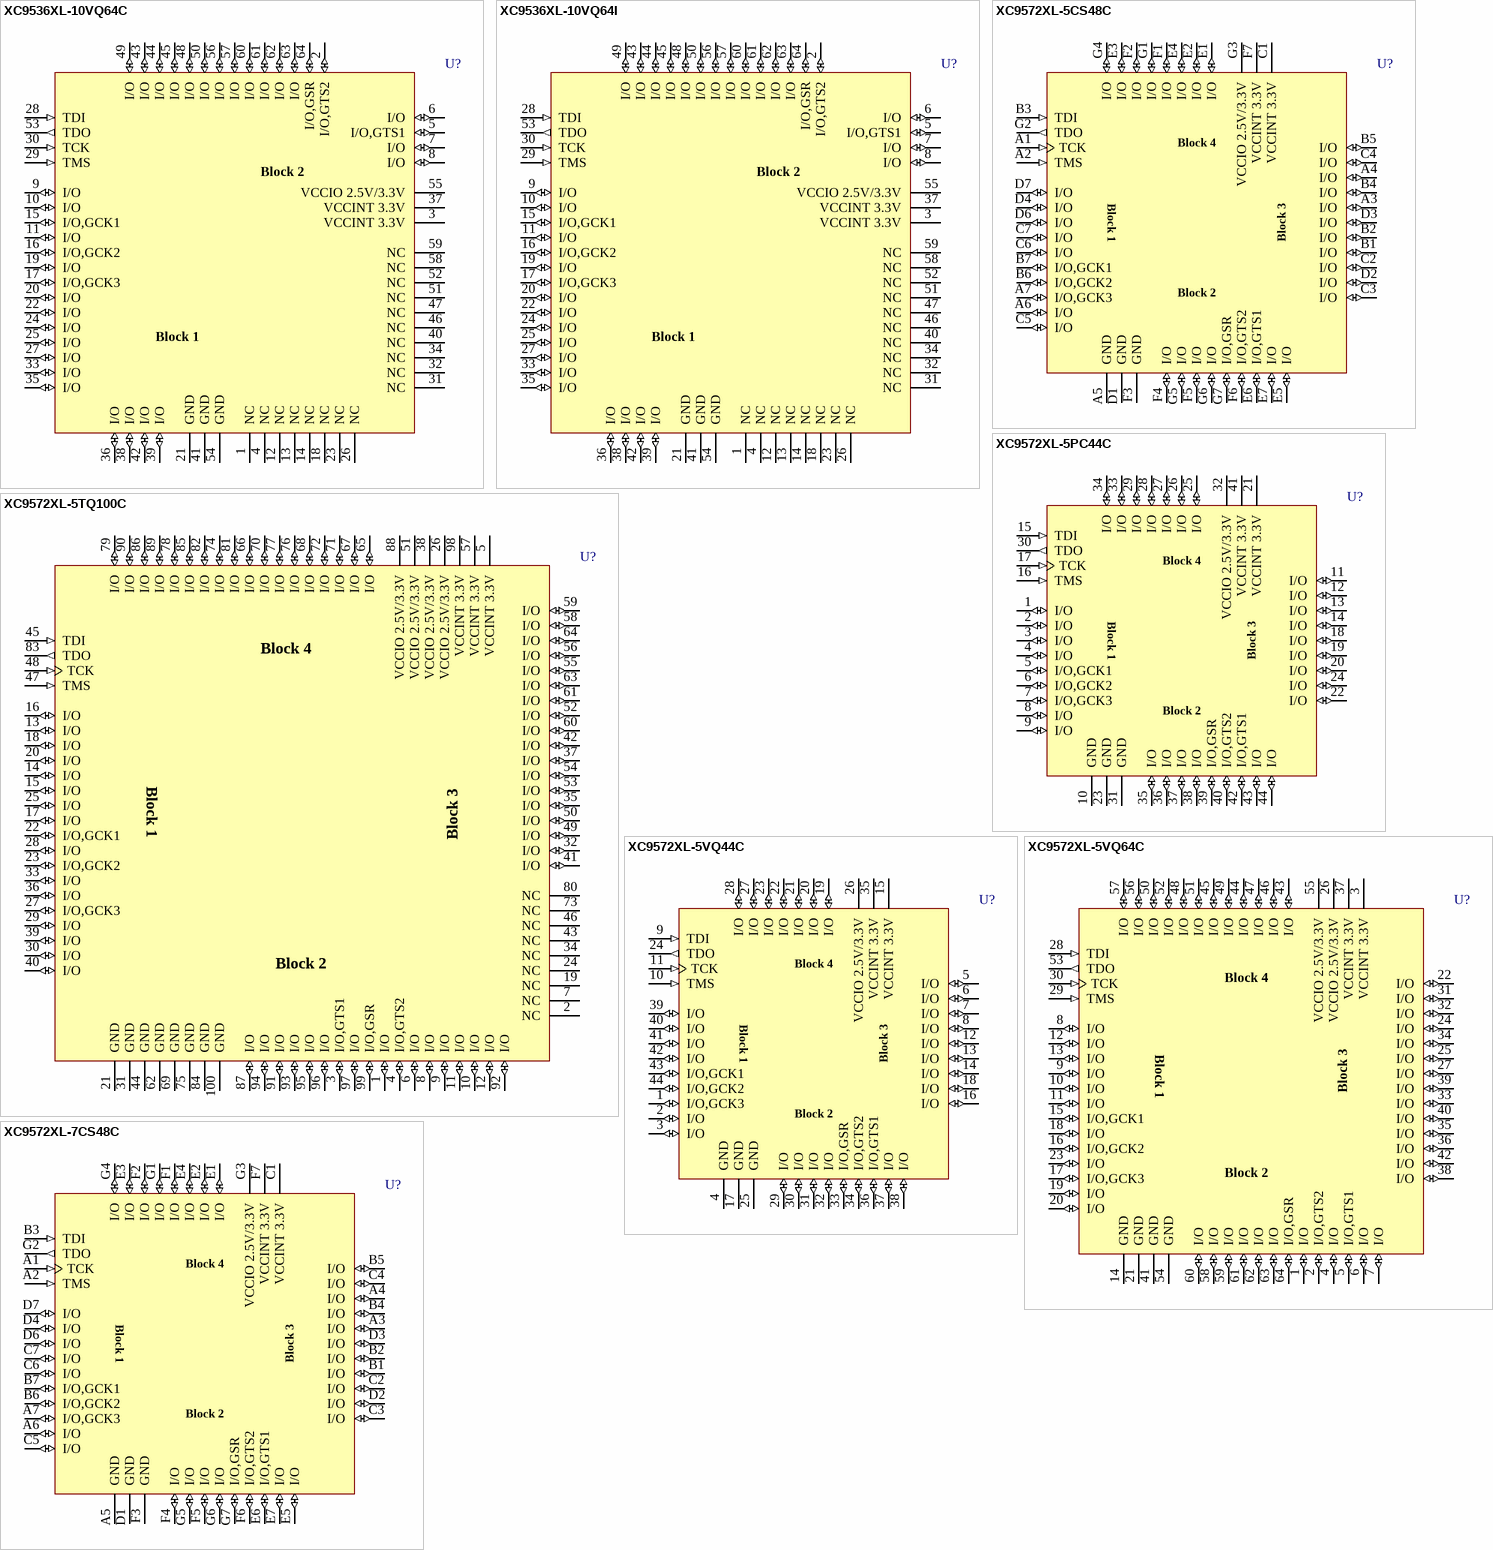
[diagram p2: symbols XC9536XL-10VQ64C to XC9572XL-7CS48C]

## XC9536XL-10VQ64C
designator U?
FastFLASH XC900XL, 3.3V High-Performance CPLD with 36 Macrocells, 64-Pin VQFP, Commercial Grade; PackageDocument: ver1.1, Oct-2002; Published: 17-Jul-2002; DatasheetDocument: ver1.4, Aug-2003; PackageReference: VQ64; Publisher: Altium Limited; Code_JEDEC: MS-026-ACD
footprint VQ64 (64-Pin Very Thin Quad Flat Pack (VQ64))
3D model XC9536XL-VQ64 (64-Pin Very Thin Quad Flat Pack (VQ64))
signal-integrity model XC9536XL_VQ64 (XC9500XL)
pins: 1 NC, 2 I/O,GTS2 (io), 3 VCCINT 3.3V (power), 4 NC, 5 I/O,GTS1 (io), 6 I/O (io), 7 I/O (io), 8 I/O (io), 9 I/O (io), 10 I/O (io), 11 I/O (io), 12 NC, 13 NC, 14 NC, 15 I/O,GCK1 (io), 16 I/O,GCK2 (io), 17 I/O,GCK3 (io), 18 NC, 19 I/O (io), 20 I/O (io), 21 GND (power), 22 I/O (io), 23 NC, 24 I/O (io), 25 I/O (io), 26 NC, 27 I/O (io), 28 TDI (in), 29 TMS (in), 30 TCK (in), 31 NC, 32 NC, 33 I/O (io), 34 NC, 35 I/O (io), 36 I/O (io), 37 VCCINT 3.3V (power), 38 I/O (io), 39 I/O (io), 40 NC, 41 GND (power), 42 I/O (io), 43 I/O (io), 44 I/O (io), 45 I/O (io), 46 NC, 47 NC, 48 I/O (io), 49 I/O (io), 50 I/O (io), 51 NC, 52 NC, 53 TDO (out), 54 GND (power), 55 VCCIO 2.5V/3.3V (power), 56 I/O (io), 57 I/O (io), 58 NC, 59 NC, 60 I/O (io), 61 I/O (io), 62 I/O (io), 63 I/O (io), 64 I/O,GSR (io)
text: Block 2; Block 1

## XC9536XL-10VQ64I
designator U?
FastFLASH XC900XL, 3.3V High-Performance CPLD with 36 Macrocells, 64-Pin VQFP, Industrial Grade; PackageDocument: ver1.1, Oct-2002; Published: 17-Jul-2002; DatasheetDocument: ver1.4, Aug-2003; PackageReference: VQ64; Publisher: Altium Limited; Code_JEDEC: MS-026-ACD
footprint VQ64 (64-Pin Very Thin Quad Flat Pack (VQ64))
3D model XC9536XL-VQ64 (64-Pin Very Thin Quad Flat Pack (VQ64))
signal-integrity model XC9536XL_VQ64 (XC9500XL)
pins: 1 NC, 2 I/O,GTS2 (io), 3 VCCINT 3.3V (power), 4 NC, 5 I/O,GTS1 (io), 6 I/O (io), 7 I/O (io), 8 I/O (io), 9 I/O (io), 10 I/O (io), 11 I/O (io), 12 NC, 13 NC, 14 NC, 15 I/O,GCK1 (io), 16 I/O,GCK2 (io), 17 I/O,GCK3 (io), 18 NC, 19 I/O (io), 20 I/O (io), 21 GND (power), 22 I/O (io), 23 NC, 24 I/O (io), 25 I/O (io), 26 NC, 27 I/O (io), 28 TDI (in), 29 TMS (in), 30 TCK (in), 31 NC, 32 NC, 33 I/O (io), 34 NC, 35 I/O (io), 36 I/O (io), 37 VCCINT 3.3V (power), 38 I/O (io), 39 I/O (io), 40 NC, 41 GND (power), 42 I/O (io), 43 I/O (io), 44 I/O (io), 45 I/O (io), 46 NC, 47 NC, 48 I/O (io), 49 I/O (io), 50 I/O (io), 51 NC, 52 NC, 53 TDO (out), 54 GND (power), 55 VCCIO 2.5V/3.3V (power), 56 I/O (io), 57 I/O (io), 58 NC, 59 NC, 60 I/O (io), 61 I/O (io), 62 I/O (io), 63 I/O (io), 64 I/O,GSR (io)
text: Block 2; Block 1

## XC9572XL-5CS48C
designator U?
FastFLASH XC900XL, 3.3V High-Performance CPLD with 72 Macrocells, 48-Ball CSBGA, Commercial Grade; PackageDocument: ver1.1, Apr-2001; Published: 17-Sep-2003; DatasheetDocument: ver1.4, Aug-2003; PackageReference: CS48; Publisher: Altium Limited
footprint CS48 (48-Ball Chip Scale Ball Grid Array (CS48))
3D model XC9572XL-CS48 (48-Ball Chip Scale Ball Grid Array (CS48))
signal-integrity model XC9572XL_CS48 (XC9500XL)
pins: A1 TCK (in), A2 TMS (in), A3 I/O (io), A4 I/O (io), A5 GND (power), A6 I/O (io), A7 I/O,GCK3 (io), B1 I/O (io), B2 I/O (io), B3 TDI (in), B4 I/O (io), B5 I/O (io), B6 I/O,GCK2 (io), B7 I/O,GCK1 (io), C1 VCCINT 3.3V (power), C2 I/O (io), C3 I/O (io), C4 I/O (io), C5 I/O (io), C6 I/O (io), C7 I/O (io), D1 GND (power), D2 I/O (io), D3 I/O (io), D4 I/O (io), D6 I/O (io), D7 I/O (io), E1 I/O (io), E2 I/O (io), E3 I/O (io), E4 I/O (io), E5 I/O (io), E6 I/O,GTS1 (io), E7 I/O (io), F1 I/O (io), F2 I/O (io), F3 GND (power), F4 I/O (io), F5 I/O (io), F6 I/O,GTS2 (io), F7 VCCINT 3.3V (power), G1 I/O (io), G2 TDO (out), G3 VCCIO 2.5V/3.3V (power), G4 I/O (io), G5 I/O (io), G6 I/O (io), G7 I/O,GSR (io)
text: Block 4; Block 1; Block 3; Block 2

## XC9572XL-5PC44C
designator U?
FastFLASH XC900XL, 3.3V High-Performance CPLD with 72 Macrocells, 44-Pin PLCC, Commercial Grade; PackageDocument: ver1.0, Jun-2000; Published: 17-Sep-2003; DatasheetDocument: ver1.4, Aug-2003; PackageReference: PC44; Publisher: Altium Limited; Code_JEDEC: MS-047; Code_IPC: PLCC-44
footprint PC44 (44-Pin Plastic Leaded Chip Carrier (PC44))
3D model XC9572XL-PC44 (44-Pin Plastic Leaded Chip Carrier (PC44))
signal-integrity model XC9572XL_PLCC44 (XC9500XL)
pins: 1 I/O (io), 2 I/O (io), 3 I/O (io), 4 I/O (io), 5 I/O,GCK1 (io), 6 I/O,GCK2 (io), 7 I/O,GCK3 (io), 8 I/O (io), 9 I/O (io), 10 GND (power), 11 I/O (io), 12 I/O (io), 13 I/O (io), 14 I/O (io), 15 TDI (in), 16 TMS (in), 17 TCK (in), 18 I/O (io), 19 I/O (io), 20 I/O (io), 21 VCCINT 3.3V (power), 22 I/O (io), 23 GND (power), 24 I/O (io), 25 I/O (io), 26 I/O (io), 27 I/O (io), 28 I/O (io), 29 I/O (io), 30 TDO (out), 31 GND (power), 32 VCCIO 2.5V/3.3V (power), 33 I/O (io), 34 I/O (io), 35 I/O (io), 36 I/O (io), 37 I/O (io), 38 I/O (io), 39 I/O,GSR (io), 40 I/O,GTS2 (io), 41 VCCINT 3.3V (power), 42 I/O,GTS1 (io), 43 I/O (io), 44 I/O (io)
text: Block 4; Block 1; Block 3; Block 2

## XC9572XL-5TQ100C
designator U?
FastFLASH XC900XL, 3.3V High-Performance CPLD with 72 Macrocells, 100-Pin TQFP, Commercial Grade; PackageDocument: ver1.1, Oct-2002; Published: 17-Sep-2003; DatasheetDocument: ver1.4, Aug-2003; PackageReference: TQ100; Publisher: Altium Limited; Code_IPC: SQFP14X14-100
footprint TQ100 (100-Pin Thin Quad Flat Pack (TQ100))
3D model XC9572XL-TQ100 (100-Pin Thin Quad Flat Pack (TQ100))
signal-integrity model XC9572XL_TQ100 (XC9500XL)
pins: 1 I/O (io), 2 NC, 3 I/O,GTS1 (io), 4 I/O,GTS2 (io), 5 VCCINT 3.3V (power), 6 I/O (io), 7 NC, 8 I/O (io), 9 I/O (io), 10 I/O (io), 11 I/O (io), 12 I/O (io), 13 I/O (io), 14 I/O (io), 15 I/O (io), 16 I/O (io), 17 I/O (io), 18 I/O (io), 19 NC, 20 I/O (io), 21 GND (power), 22 I/O,GCK1 (io), 23 I/O,GCK2 (io), 24 NC, 25 I/O (io), 26 VCCIO 2.5V/3.3V (power), 27 I/O,GCK3 (io), 28 I/O (io), 29 I/O (io), 30 I/O (io), 31 GND (power), 32 I/O (io), 33 I/O (io), 34 NC, 35 I/O (io), 36 I/O (io), 37 I/O (io), 38 VCCIO 2.5V/3.3V (power), 39 I/O (io), 40 I/O (io), 41 I/O (io), 42 I/O (io), 43 NC, 44 GND (power), 45 TDI (in), 46 NC, 47 TMS (in), 48 TCK (in), 49 I/O (io), 50 I/O (io), 51 VCCIO 2.5V/3.3V (power), 52 I/O (io), 53 I/O (io), 54 I/O (io), 55 I/O (io), 56 I/O (io), 57 VCCINT 3.3V (power), 58 I/O (io), 59 I/O (io), 60 I/O (io), 61 I/O (io), 62 GND (power), 63 I/O (io), 64 I/O (io), 65 I/O (io), 66 I/O (io), 67 I/O (io), 68 I/O (io), 69 GND (power), 70 I/O (io), 71 I/O (io), 72 I/O (io), 73 NC, 74 I/O (io), 75 GND (power), 76 I/O (io), 77 I/O (io), 78 I/O (io), 79 I/O (io), 80 NC, 81 I/O (io), 82 I/O (io), 83 TDO (out), 84 GND (power), 85 I/O (io), 86 I/O (io), 87 I/O (io), 88 VCCIO 2.5V/3.3V (power), 89 I/O (io), 90 I/O (io), 91 I/O (io), 92 I/O (io), 93 I/O (io), 94 I/O (io), 95 I/O (io), 96 I/O (io), 97 I/O (io), 98 VCCINT 3.3V (power), 99 I/O,GSR (io), 100 GND (power)
text: Block 4; Block 1; Block 3; Block 2

## XC9572XL-5VQ44C
designator U?
FastFLASH XC900XL, 3.3V High-Performance CPLD with 72 Macrocells, 44-Pin VQFP, Commercial Grade; PackageDocument: ver1.1, Oct-2002; Published: 17-Sep-2003; DatasheetDocument: ver1.4, Aug-2003; PackageReference: VQ44; Publisher: Altium Limited; Code_JEDEC: MS-026-ACB
footprint VQ44 (44-Pin Very Thin Quad Flat Pack (VQ44))
3D model XC9572XL-VQ44 (44-Pin Very Thin Quad Flat Pack (VQ44))
signal-integrity model XC9572XL_VQ44 (XC9500XL)
pins: 1 I/O,GCK3 (io), 2 I/O (io), 3 I/O (io), 4 GND (power), 5 I/O (io), 6 I/O (io), 7 I/O (io), 8 I/O (io), 9 TDI (in), 10 TMS (in), 11 TCK (in), 12 I/O (io), 13 I/O (io), 14 I/O (io), 15 VCCINT 3.3V (power), 16 I/O (io), 17 GND (power), 18 I/O (io), 19 I/O (io), 20 I/O (io), 21 I/O (io), 22 I/O (io), 23 I/O (io), 24 TDO (out), 25 GND (power), 26 VCCIO 2.5V/3.3V (power), 27 I/O (io), 28 I/O (io), 29 I/O (io), 30 I/O (io), 31 I/O (io), 32 I/O (io), 33 I/O,GSR (io), 34 I/O,GTS2 (io), 35 VCCINT 3.3V (power), 36 I/O,GTS1 (io), 37 I/O (io), 38 I/O (io), 39 I/O (io), 40 I/O (io), 41 I/O (io), 42 I/O (io), 43 I/O,GCK1 (io), 44 I/O,GCK2 (io)
text: Block 4; Block 1; Block 3; Block 2

## XC9572XL-5VQ64C
designator U?
FastFLASH XC900XL, 3.3V High-Performance CPLD with 72 Macrocells, 64-Pin VQFP, Commercial Grade; PackageDocument: ver1.1, Oct-2002; Published: 17-Sep-2003; DatasheetDocument: ver1.4, Aug-2003; PackageReference: VQ64; Publisher: Altium Limited; Code_JEDEC: MS-026-ACD
footprint VQ64 (64-Pin Very Thin Quad Flat Pack (VQ64))
3D model XC9572XL-VQ64 (64-Pin Very Thin Quad Flat Pack (VQ64))
signal-integrity model XC9572XL_VQ64 (XC9500XL)
pins: 1 I/O (io), 2 I/O,GTS2 (io), 3 VCCINT 3.3V (power), 4 I/O (io), 5 I/O,GTS1 (io), 6 I/O (io), 7 I/O (io), 8 I/O (io), 9 I/O (io), 10 I/O (io), 11 I/O (io), 12 I/O (io), 13 I/O (io), 14 GND (power), 15 I/O,GCK1 (io), 16 I/O,GCK2 (io), 17 I/O,GCK3 (io), 18 I/O (io), 19 I/O (io), 20 I/O (io), 21 GND (power), 22 I/O (io), 23 I/O (io), 24 I/O (io), 25 I/O (io), 26 VCCIO 2.5V/3.3V (power), 27 I/O (io), 28 TDI (in), 29 TMS (in), 30 TCK (in), 31 I/O (io), 32 I/O (io), 33 I/O (io), 34 I/O (io), 35 I/O (io), 36 I/O (io), 37 VCCINT 3.3V (power), 38 I/O (io), 39 I/O (io), 40 I/O (io), 41 GND (power), 42 I/O (io), 43 I/O (io), 44 I/O (io), 45 I/O (io), 46 I/O (io), 47 I/O (io), 48 I/O (io), 49 I/O (io), 50 I/O (io), 51 I/O (io), 52 I/O (io), 53 TDO (out), 54 GND (power), 55 VCCIO 2.5V/3.3V (power), 56 I/O (io), 57 I/O (io), 58 I/O (io), 59 I/O (io), 60 I/O (io), 61 I/O (io), 62 I/O (io), 63 I/O (io), 64 I/O,GSR (io)
text: Block 4; Block 1; Block 3; Block 2

## XC9572XL-7CS48C
designator U?
FastFLASH XC900XL, 3.3V High-Performance CPLD with 72 Macrocells, 48-Ball CSBGA, Commercial Grade; PackageDocument: ver1.1, Apr-2001; Published: 17-Jul-2002; DatasheetDocument: ver1.4, Aug-2003; PackageReference: CS48; Publisher: Altium Limited
footprint CS48 (48-Ball Chip Scale Ball Grid Array (CS48))
3D model XC9572XL-CS48 (48-Ball Chip Scale Ball Grid Array (CS48))
signal-integrity model XC9572XL_CS48 (XC9500XL)
pins: A1 TCK (in), A2 TMS (in), A3 I/O (io), A4 I/O (io), A5 GND (power), A6 I/O (io), A7 I/O,GCK3 (io), B1 I/O (io), B2 I/O (io), B3 TDI (in), B4 I/O (io), B5 I/O (io), B6 I/O,GCK2 (io), B7 I/O,GCK1 (io), C1 VCCINT 3.3V (power), C2 I/O (io), C3 I/O (io), C4 I/O (io), C5 I/O (io), C6 I/O (io), C7 I/O (io), D1 GND (power), D2 I/O (io), D3 I/O (io), D4 I/O (io), D6 I/O (io), D7 I/O (io), E1 I/O (io), E2 I/O (io), E3 I/O (io), E4 I/O (io), E5 I/O (io), E6 I/O,GTS1 (io), E7 I/O (io), F1 I/O (io), F2 I/O (io), F3 GND (power), F4 I/O (io), F5 I/O (io), F6 I/O,GTS2 (io), F7 VCCINT 3.3V (power), G1 I/O (io), G2 TDO (out), G3 VCCIO 2.5V/3.3V (power), G4 I/O (io), G5 I/O (io), G6 I/O (io), G7 I/O,GSR (io)
text: Block 4; Block 1; Block 3; Block 2

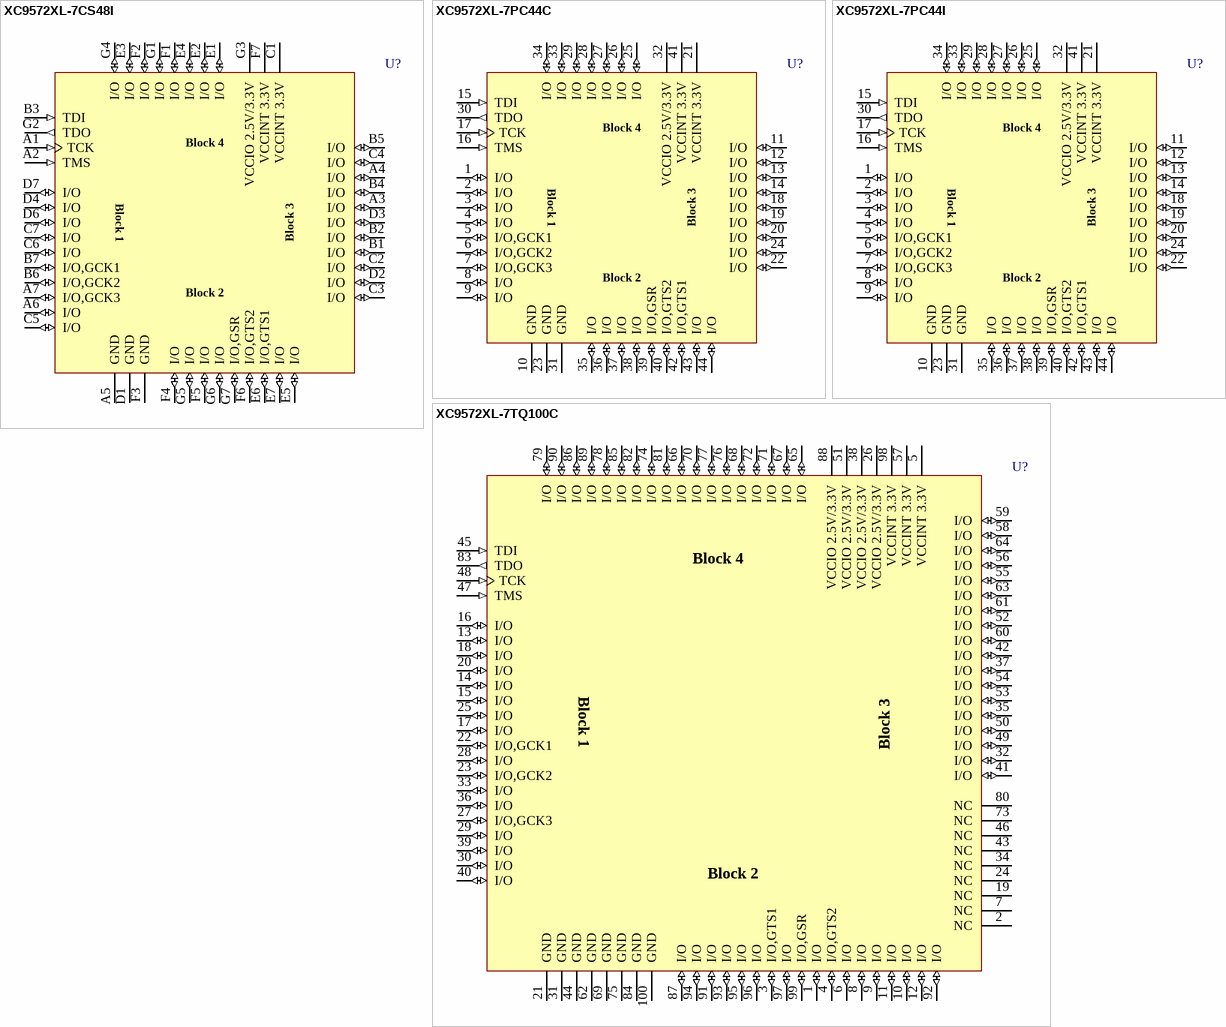
[diagram p3: symbols XC9572XL-7CS48I to XC9572XL-7TQ100C]

## XC9572XL-7CS48I
designator U?
FastFLASH XC900XL, 3.3V High-Performance CPLD with 72 Macrocells, 48-Ball CSBGA, Industrial Grade; PackageDocument: ver1.1, Apr-2001; Published: 17-Sep-2003; DatasheetDocument: ver1.4, Aug-2003; PackageReference: CS48; Publisher: Altium Limited
footprint CS48 (48-Ball Chip Scale Ball Grid Array (CS48))
3D model XC9572XL-CS48 (48-Ball Chip Scale Ball Grid Array (CS48))
signal-integrity model XC9572XL_CS48 (XC9500XL)
pins: A1 TCK (in), A2 TMS (in), A3 I/O (io), A4 I/O (io), A5 GND (power), A6 I/O (io), A7 I/O,GCK3 (io), B1 I/O (io), B2 I/O (io), B3 TDI (in), B4 I/O (io), B5 I/O (io), B6 I/O,GCK2 (io), B7 I/O,GCK1 (io), C1 VCCINT 3.3V (power), C2 I/O (io), C3 I/O (io), C4 I/O (io), C5 I/O (io), C6 I/O (io), C7 I/O (io), D1 GND (power), D2 I/O (io), D3 I/O (io), D4 I/O (io), D6 I/O (io), D7 I/O (io), E1 I/O (io), E2 I/O (io), E3 I/O (io), E4 I/O (io), E5 I/O (io), E6 I/O,GTS1 (io), E7 I/O (io), F1 I/O (io), F2 I/O (io), F3 GND (power), F4 I/O (io), F5 I/O (io), F6 I/O,GTS2 (io), F7 VCCINT 3.3V (power), G1 I/O (io), G2 TDO (out), G3 VCCIO 2.5V/3.3V (power), G4 I/O (io), G5 I/O (io), G6 I/O (io), G7 I/O,GSR (io)
text: Block 4; Block 1; Block 3; Block 2

## XC9572XL-7PC44C
designator U?
FastFLASH XC900XL, 3.3V High-Performance CPLD with 72 Macrocells, 44-Pin PLCC, Commercial Grade; PackageDocument: ver1.0, Jun-2000; Published: 17-Jul-2002; DatasheetDocument: ver1.4, Aug-2003; PackageReference: PC44; Publisher: Altium Limited; Code_JEDEC: MS-047; Code_IPC: PLCC-44
footprint PC44 (44-Pin Plastic Leaded Chip Carrier (PC44))
3D model XC9572XL-PC44 (44-Pin Plastic Leaded Chip Carrier (PC44))
signal-integrity model XC9572XL_PLCC44 (XC9500XL)
pins: 1 I/O (io), 2 I/O (io), 3 I/O (io), 4 I/O (io), 5 I/O,GCK1 (io), 6 I/O,GCK2 (io), 7 I/O,GCK3 (io), 8 I/O (io), 9 I/O (io), 10 GND (power), 11 I/O (io), 12 I/O (io), 13 I/O (io), 14 I/O (io), 15 TDI (in), 16 TMS (in), 17 TCK (in), 18 I/O (io), 19 I/O (io), 20 I/O (io), 21 VCCINT 3.3V (power), 22 I/O (io), 23 GND (power), 24 I/O (io), 25 I/O (io), 26 I/O (io), 27 I/O (io), 28 I/O (io), 29 I/O (io), 30 TDO (out), 31 GND (power), 32 VCCIO 2.5V/3.3V (power), 33 I/O (io), 34 I/O (io), 35 I/O (io), 36 I/O (io), 37 I/O (io), 38 I/O (io), 39 I/O,GSR (io), 40 I/O,GTS2 (io), 41 VCCINT 3.3V (power), 42 I/O,GTS1 (io), 43 I/O (io), 44 I/O (io)
text: Block 4; Block 1; Block 3; Block 2

## XC9572XL-7PC44I
designator U?
FastFLASH XC900XL, 3.3V High-Performance CPLD with 72 Macrocells, 44-Pin PLCC, Industrial Grade; PackageDocument: ver1.0, Jun-2000; Published: 17-Jul-2002; DatasheetDocument: ver1.4, Aug-2003; PackageReference: PC44; Publisher: Altium Limited; Code_JEDEC: MS-047; Code_IPC: PLCC-44
footprint PC44 (44-Pin Plastic Leaded Chip Carrier (PC44))
3D model XC9572XL-PC44 (44-Pin Plastic Leaded Chip Carrier (PC44))
signal-integrity model XC9572XL_PLCC44 (XC9500XL)
pins: 1 I/O (io), 2 I/O (io), 3 I/O (io), 4 I/O (io), 5 I/O,GCK1 (io), 6 I/O,GCK2 (io), 7 I/O,GCK3 (io), 8 I/O (io), 9 I/O (io), 10 GND (power), 11 I/O (io), 12 I/O (io), 13 I/O (io), 14 I/O (io), 15 TDI (in), 16 TMS (in), 17 TCK (in), 18 I/O (io), 19 I/O (io), 20 I/O (io), 21 VCCINT 3.3V (power), 22 I/O (io), 23 GND (power), 24 I/O (io), 25 I/O (io), 26 I/O (io), 27 I/O (io), 28 I/O (io), 29 I/O (io), 30 TDO (out), 31 GND (power), 32 VCCIO 2.5V/3.3V (power), 33 I/O (io), 34 I/O (io), 35 I/O (io), 36 I/O (io), 37 I/O (io), 38 I/O (io), 39 I/O,GSR (io), 40 I/O,GTS2 (io), 41 VCCINT 3.3V (power), 42 I/O,GTS1 (io), 43 I/O (io), 44 I/O (io)
text: Block 4; Block 1; Block 3; Block 2

## XC9572XL-7TQ100C
designator U?
FastFLASH XC900XL, 3.3V High-Performance CPLD with 72 Macrocells, 100-Pin TQFP, Commercial Grade; PackageDocument: ver1.1, Oct-2002; Published: 17-Jul-2002; DatasheetDocument: ver1.4, Aug-2003; PackageReference: TQ100; Publisher: Altium Limited; Code_IPC: SQFP14X14-100
footprint TQ100 (100-Pin Thin Quad Flat Pack (TQ100))
3D model XC9572XL-TQ100 (100-Pin Thin Quad Flat Pack (TQ100))
signal-integrity model XC9572XL_TQ100 (XC9500XL)
pins: 1 I/O (io), 2 NC, 3 I/O,GTS1 (io), 4 I/O,GTS2 (io), 5 VCCINT 3.3V (power), 6 I/O (io), 7 NC, 8 I/O (io), 9 I/O (io), 10 I/O (io), 11 I/O (io), 12 I/O (io), 13 I/O (io), 14 I/O (io), 15 I/O (io), 16 I/O (io), 17 I/O (io), 18 I/O (io), 19 NC, 20 I/O (io), 21 GND (power), 22 I/O,GCK1 (io), 23 I/O,GCK2 (io), 24 NC, 25 I/O (io), 26 VCCIO 2.5V/3.3V (power), 27 I/O,GCK3 (io), 28 I/O (io), 29 I/O (io), 30 I/O (io), 31 GND (power), 32 I/O (io), 33 I/O (io), 34 NC, 35 I/O (io), 36 I/O (io), 37 I/O (io), 38 VCCIO 2.5V/3.3V (power), 39 I/O (io), 40 I/O (io), 41 I/O (io), 42 I/O (io), 43 NC, 44 GND (power), 45 TDI (in), 46 NC, 47 TMS (in), 48 TCK (in), 49 I/O (io), 50 I/O (io), 51 VCCIO 2.5V/3.3V (power), 52 I/O (io), 53 I/O (io), 54 I/O (io), 55 I/O (io), 56 I/O (io), 57 VCCINT 3.3V (power), 58 I/O (io), 59 I/O (io), 60 I/O (io), 61 I/O (io), 62 GND (power), 63 I/O (io), 64 I/O (io), 65 I/O (io), 66 I/O (io), 67 I/O (io), 68 I/O (io), 69 GND (power), 70 I/O (io), 71 I/O (io), 72 I/O (io), 73 NC, 74 I/O (io), 75 GND (power), 76 I/O (io), 77 I/O (io), 78 I/O (io), 79 I/O (io), 80 NC, 81 I/O (io), 82 I/O (io), 83 TDO (out), 84 GND (power), 85 I/O (io), 86 I/O (io), 87 I/O (io), 88 VCCIO 2.5V/3.3V (power), 89 I/O (io), 90 I/O (io), 91 I/O (io), 92 I/O (io), 93 I/O (io), 94 I/O (io), 95 I/O (io), 96 I/O (io), 97 I/O (io), 98 VCCINT 3.3V (power), 99 I/O,GSR (io), 100 GND (power)
text: Block 4; Block 1; Block 3; Block 2

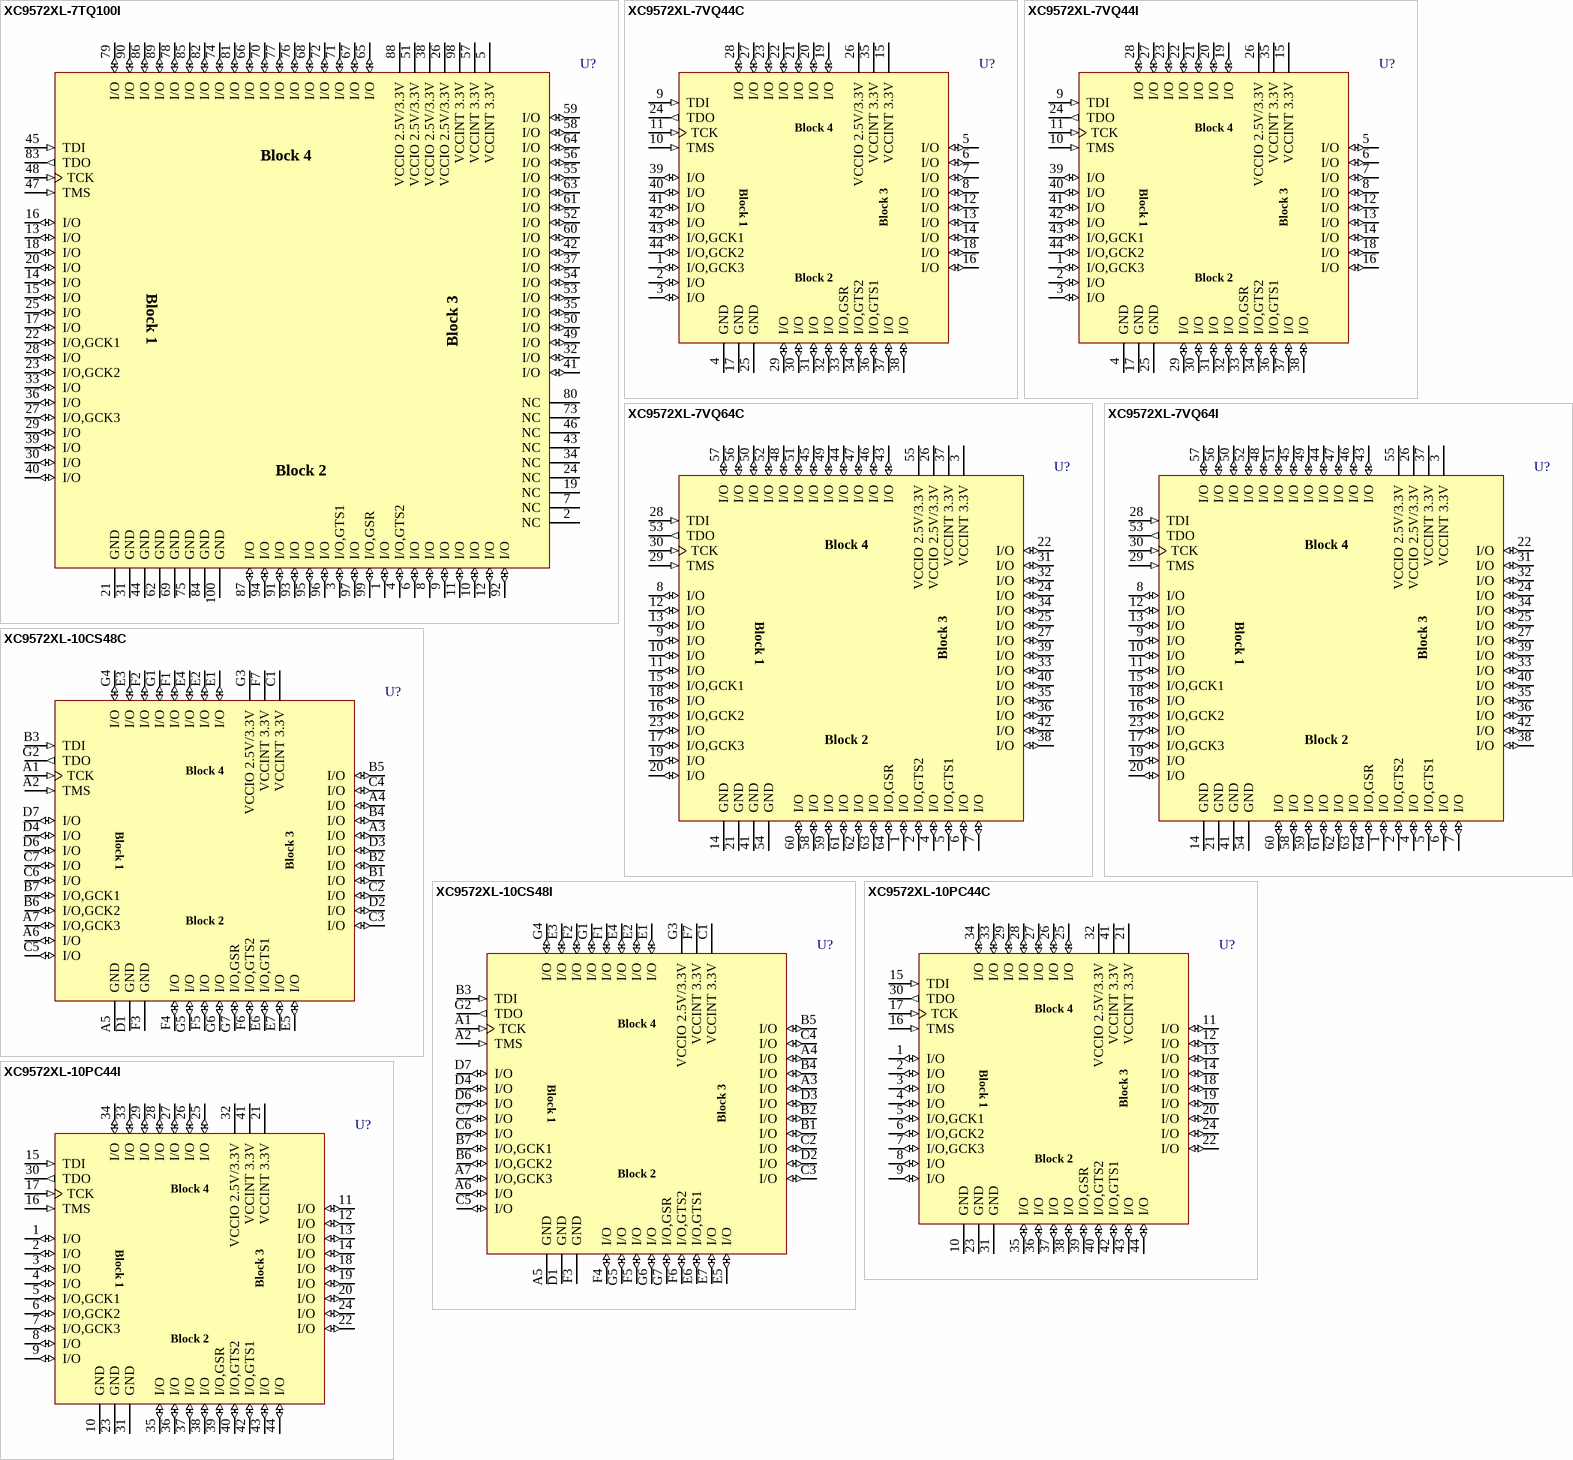
[diagram p4: symbols XC9572XL-7TQ100I to XC9572XL-10PC44I]

## XC9572XL-7TQ100I
designator U?
FastFLASH XC900XL, 3.3V High-Performance CPLD with 72 Macrocells, 100-Pin TQFP, Industrial Grade; PackageDocument: ver1.1, Oct-2002; Published: 17-Jul-2002; DatasheetDocument: ver1.4, Aug-2003; PackageReference: TQ100; Publisher: Altium Limited; Code_IPC: SQFP14X14-100
footprint TQ100 (100-Pin Thin Quad Flat Pack (TQ100))
3D model XC9572XL-TQ100 (100-Pin Thin Quad Flat Pack (TQ100))
signal-integrity model XC9572XL_TQ100 (XC9500XL)
pins: 1 I/O (io), 2 NC, 3 I/O,GTS1 (io), 4 I/O,GTS2 (io), 5 VCCINT 3.3V (power), 6 I/O (io), 7 NC, 8 I/O (io), 9 I/O (io), 10 I/O (io), 11 I/O (io), 12 I/O (io), 13 I/O (io), 14 I/O (io), 15 I/O (io), 16 I/O (io), 17 I/O (io), 18 I/O (io), 19 NC, 20 I/O (io), 21 GND (power), 22 I/O,GCK1 (io), 23 I/O,GCK2 (io), 24 NC, 25 I/O (io), 26 VCCIO 2.5V/3.3V (power), 27 I/O,GCK3 (io), 28 I/O (io), 29 I/O (io), 30 I/O (io), 31 GND (power), 32 I/O (io), 33 I/O (io), 34 NC, 35 I/O (io), 36 I/O (io), 37 I/O (io), 38 VCCIO 2.5V/3.3V (power), 39 I/O (io), 40 I/O (io), 41 I/O (io), 42 I/O (io), 43 NC, 44 GND (power), 45 TDI (in), 46 NC, 47 TMS (in), 48 TCK (in), 49 I/O (io), 50 I/O (io), 51 VCCIO 2.5V/3.3V (power), 52 I/O (io), 53 I/O (io), 54 I/O (io), 55 I/O (io), 56 I/O (io), 57 VCCINT 3.3V (power), 58 I/O (io), 59 I/O (io), 60 I/O (io), 61 I/O (io), 62 GND (power), 63 I/O (io), 64 I/O (io), 65 I/O (io), 66 I/O (io), 67 I/O (io), 68 I/O (io), 69 GND (power), 70 I/O (io), 71 I/O (io), 72 I/O (io), 73 NC, 74 I/O (io), 75 GND (power), 76 I/O (io), 77 I/O (io), 78 I/O (io), 79 I/O (io), 80 NC, 81 I/O (io), 82 I/O (io), 83 TDO (out), 84 GND (power), 85 I/O (io), 86 I/O (io), 87 I/O (io), 88 VCCIO 2.5V/3.3V (power), 89 I/O (io), 90 I/O (io), 91 I/O (io), 92 I/O (io), 93 I/O (io), 94 I/O (io), 95 I/O (io), 96 I/O (io), 97 I/O (io), 98 VCCINT 3.3V (power), 99 I/O,GSR (io), 100 GND (power)
text: Block 4; Block 1; Block 3; Block 2

## XC9572XL-7VQ44C
designator U?
FastFLASH XC900XL, 3.3V High-Performance CPLD with 72 Macrocells, 44-Pin VQFP, Commercial Grade; PackageDocument: ver1.1, Oct-2002; Published: 17-Jul-2002; DatasheetDocument: ver1.4, Aug-2003; PackageReference: VQ44; Publisher: Altium Limited; Code_JEDEC: MS-026-ACB
footprint VQ44 (44-Pin Very Thin Quad Flat Pack (VQ44))
3D model XC9572XL-VQ44 (44-Pin Very Thin Quad Flat Pack (VQ44))
signal-integrity model XC9572XL_VQ44 (XC9500XL)
pins: 1 I/O,GCK3 (io), 2 I/O (io), 3 I/O (io), 4 GND (power), 5 I/O (io), 6 I/O (io), 7 I/O (io), 8 I/O (io), 9 TDI (in), 10 TMS (in), 11 TCK (in), 12 I/O (io), 13 I/O (io), 14 I/O (io), 15 VCCINT 3.3V (power), 16 I/O (io), 17 GND (power), 18 I/O (io), 19 I/O (io), 20 I/O (io), 21 I/O (io), 22 I/O (io), 23 I/O (io), 24 TDO (out), 25 GND (power), 26 VCCIO 2.5V/3.3V (power), 27 I/O (io), 28 I/O (io), 29 I/O (io), 30 I/O (io), 31 I/O (io), 32 I/O (io), 33 I/O,GSR (io), 34 I/O,GTS2 (io), 35 VCCINT 3.3V (power), 36 I/O,GTS1 (io), 37 I/O (io), 38 I/O (io), 39 I/O (io), 40 I/O (io), 41 I/O (io), 42 I/O (io), 43 I/O,GCK1 (io), 44 I/O,GCK2 (io)
text: Block 4; Block 1; Block 3; Block 2

## XC9572XL-7VQ44I
designator U?
FastFLASH XC900XL, 3.3V High-Performance CPLD with 72 Macrocells, 44-Pin VQFP, Industrial Grade; PackageDocument: ver1.1, Oct-2002; Published: 17-Jul-2002; DatasheetDocument: ver1.4, Aug-2003; PackageReference: VQ44; Publisher: Altium Limited; Code_JEDEC: MS-026-ACB
footprint VQ44 (44-Pin Very Thin Quad Flat Pack (VQ44))
3D model XC9572XL-VQ44 (44-Pin Very Thin Quad Flat Pack (VQ44))
signal-integrity model XC9572XL_VQ44 (XC9500XL)
pins: 1 I/O,GCK3 (io), 2 I/O (io), 3 I/O (io), 4 GND (power), 5 I/O (io), 6 I/O (io), 7 I/O (io), 8 I/O (io), 9 TDI (in), 10 TMS (in), 11 TCK (in), 12 I/O (io), 13 I/O (io), 14 I/O (io), 15 VCCINT 3.3V (power), 16 I/O (io), 17 GND (power), 18 I/O (io), 19 I/O (io), 20 I/O (io), 21 I/O (io), 22 I/O (io), 23 I/O (io), 24 TDO (out), 25 GND (power), 26 VCCIO 2.5V/3.3V (power), 27 I/O (io), 28 I/O (io), 29 I/O (io), 30 I/O (io), 31 I/O (io), 32 I/O (io), 33 I/O,GSR (io), 34 I/O,GTS2 (io), 35 VCCINT 3.3V (power), 36 I/O,GTS1 (io), 37 I/O (io), 38 I/O (io), 39 I/O (io), 40 I/O (io), 41 I/O (io), 42 I/O (io), 43 I/O,GCK1 (io), 44 I/O,GCK2 (io)
text: Block 4; Block 1; Block 3; Block 2

## XC9572XL-7VQ64C
designator U?
FastFLASH XC900XL, 3.3V High-Performance CPLD with 72 Macrocells, 64-Pin VQFP, Commercial Grade; PackageDocument: ver1.1, Oct-2002; Published: 17-Jul-2002; DatasheetDocument: ver1.4, Aug-2003; PackageReference: VQ64; Publisher: Altium Limited; Code_JEDEC: MS-026-ACD
footprint VQ64 (64-Pin Very Thin Quad Flat Pack (VQ64))
3D model XC9572XL-VQ64 (64-Pin Very Thin Quad Flat Pack (VQ64))
signal-integrity model XC9572XL_VQ64 (XC9500XL)
pins: 1 I/O (io), 2 I/O,GTS2 (io), 3 VCCINT 3.3V (power), 4 I/O (io), 5 I/O,GTS1 (io), 6 I/O (io), 7 I/O (io), 8 I/O (io), 9 I/O (io), 10 I/O (io), 11 I/O (io), 12 I/O (io), 13 I/O (io), 14 GND (power), 15 I/O,GCK1 (io), 16 I/O,GCK2 (io), 17 I/O,GCK3 (io), 18 I/O (io), 19 I/O (io), 20 I/O (io), 21 GND (power), 22 I/O (io), 23 I/O (io), 24 I/O (io), 25 I/O (io), 26 VCCIO 2.5V/3.3V (power), 27 I/O (io), 28 TDI (in), 29 TMS (in), 30 TCK (in), 31 I/O (io), 32 I/O (io), 33 I/O (io), 34 I/O (io), 35 I/O (io), 36 I/O (io), 37 VCCINT 3.3V (power), 38 I/O (io), 39 I/O (io), 40 I/O (io), 41 GND (power), 42 I/O (io), 43 I/O (io), 44 I/O (io), 45 I/O (io), 46 I/O (io), 47 I/O (io), 48 I/O (io), 49 I/O (io), 50 I/O (io), 51 I/O (io), 52 I/O (io), 53 TDO (out), 54 GND (power), 55 VCCIO 2.5V/3.3V (power), 56 I/O (io), 57 I/O (io), 58 I/O (io), 59 I/O (io), 60 I/O (io), 61 I/O (io), 62 I/O (io), 63 I/O (io), 64 I/O,GSR (io)
text: Block 4; Block 1; Block 3; Block 2

## XC9572XL-7VQ64I
designator U?
FastFLASH XC900XL, 3.3V High-Performance CPLD with 72 Macrocells, 64-Pin VQFP, Industrial Grade; PackageDocument: ver1.1, Oct-2002; Published: 17-Jul-2002; DatasheetDocument: ver1.4, Aug-2003; PackageReference: VQ64; Publisher: Altium Limited; Code_JEDEC: MS-026-ACD
footprint VQ64 (64-Pin Very Thin Quad Flat Pack (VQ64))
3D model XC9572XL-VQ64 (64-Pin Very Thin Quad Flat Pack (VQ64))
signal-integrity model XC9572XL_VQ64 (XC9500XL)
pins: 1 I/O (io), 2 I/O,GTS2 (io), 3 VCCINT 3.3V (power), 4 I/O (io), 5 I/O,GTS1 (io), 6 I/O (io), 7 I/O (io), 8 I/O (io), 9 I/O (io), 10 I/O (io), 11 I/O (io), 12 I/O (io), 13 I/O (io), 14 GND (power), 15 I/O,GCK1 (io), 16 I/O,GCK2 (io), 17 I/O,GCK3 (io), 18 I/O (io), 19 I/O (io), 20 I/O (io), 21 GND (power), 22 I/O (io), 23 I/O (io), 24 I/O (io), 25 I/O (io), 26 VCCIO 2.5V/3.3V (power), 27 I/O (io), 28 TDI (in), 29 TMS (in), 30 TCK (in), 31 I/O (io), 32 I/O (io), 33 I/O (io), 34 I/O (io), 35 I/O (io), 36 I/O (io), 37 VCCINT 3.3V (power), 38 I/O (io), 39 I/O (io), 40 I/O (io), 41 GND (power), 42 I/O (io), 43 I/O (io), 44 I/O (io), 45 I/O (io), 46 I/O (io), 47 I/O (io), 48 I/O (io), 49 I/O (io), 50 I/O (io), 51 I/O (io), 52 I/O (io), 53 TDO (out), 54 GND (power), 55 VCCIO 2.5V/3.3V (power), 56 I/O (io), 57 I/O (io), 58 I/O (io), 59 I/O (io), 60 I/O (io), 61 I/O (io), 62 I/O (io), 63 I/O (io), 64 I/O,GSR (io)
text: Block 4; Block 1; Block 3; Block 2

## XC9572XL-10CS48C
designator U?
FastFLASH XC900XL, 3.3V High-Performance CPLD with 72 Macrocells, 48-Ball CSBGA, Commercial Grade; PackageDocument: ver1.1, Apr-2001; Published: 17-Sep-2003; DatasheetDocument: ver1.4, Aug-2003; PackageReference: CS48; Publisher: Altium Limited
footprint CS48 (48-Ball Chip Scale Ball Grid Array (CS48))
3D model XC9572XL-CS48 (48-Ball Chip Scale Ball Grid Array (CS48))
signal-integrity model XC9572XL_CS48 (XC9500XL)
pins: A1 TCK (in), A2 TMS (in), A3 I/O (io), A4 I/O (io), A5 GND (power), A6 I/O (io), A7 I/O,GCK3 (io), B1 I/O (io), B2 I/O (io), B3 TDI (in), B4 I/O (io), B5 I/O (io), B6 I/O,GCK2 (io), B7 I/O,GCK1 (io), C1 VCCINT 3.3V (power), C2 I/O (io), C3 I/O (io), C4 I/O (io), C5 I/O (io), C6 I/O (io), C7 I/O (io), D1 GND (power), D2 I/O (io), D3 I/O (io), D4 I/O (io), D6 I/O (io), D7 I/O (io), E1 I/O (io), E2 I/O (io), E3 I/O (io), E4 I/O (io), E5 I/O (io), E6 I/O,GTS1 (io), E7 I/O (io), F1 I/O (io), F2 I/O (io), F3 GND (power), F4 I/O (io), F5 I/O (io), F6 I/O,GTS2 (io), F7 VCCINT 3.3V (power), G1 I/O (io), G2 TDO (out), G3 VCCIO 2.5V/3.3V (power), G4 I/O (io), G5 I/O (io), G6 I/O (io), G7 I/O,GSR (io)
text: Block 4; Block 1; Block 3; Block 2

## XC9572XL-10CS48I
designator U?
FastFLASH XC900XL, 3.3V High-Performance CPLD with 72 Macrocells, 48-Ball CSBGA, Industrial Grade; PackageDocument: ver1.1, Apr-2001; Published: 17-Sep-2003; DatasheetDocument: ver1.4, Aug-2003; PackageReference: CS48; Publisher: Altium Limited
footprint CS48 (48-Ball Chip Scale Ball Grid Array (CS48))
3D model XC9572XL-CS48 (48-Ball Chip Scale Ball Grid Array (CS48))
signal-integrity model XC9572XL_CS48 (XC9500XL)
pins: A1 TCK (in), A2 TMS (in), A3 I/O (io), A4 I/O (io), A5 GND (power), A6 I/O (io), A7 I/O,GCK3 (io), B1 I/O (io), B2 I/O (io), B3 TDI (in), B4 I/O (io), B5 I/O (io), B6 I/O,GCK2 (io), B7 I/O,GCK1 (io), C1 VCCINT 3.3V (power), C2 I/O (io), C3 I/O (io), C4 I/O (io), C5 I/O (io), C6 I/O (io), C7 I/O (io), D1 GND (power), D2 I/O (io), D3 I/O (io), D4 I/O (io), D6 I/O (io), D7 I/O (io), E1 I/O (io), E2 I/O (io), E3 I/O (io), E4 I/O (io), E5 I/O (io), E6 I/O,GTS1 (io), E7 I/O (io), F1 I/O (io), F2 I/O (io), F3 GND (power), F4 I/O (io), F5 I/O (io), F6 I/O,GTS2 (io), F7 VCCINT 3.3V (power), G1 I/O (io), G2 TDO (out), G3 VCCIO 2.5V/3.3V (power), G4 I/O (io), G5 I/O (io), G6 I/O (io), G7 I/O,GSR (io)
text: Block 4; Block 1; Block 3; Block 2

## XC9572XL-10PC44C
designator U?
FastFLASH XC900XL, 3.3V High-Performance CPLD with 72 Macrocells, 44-Pin PLCC, Commercial Grade; PackageDocument: ver1.0, Jun-2000; Published: 17-Jul-2002; DatasheetDocument: ver1.4, Aug-2003; PackageReference: PC44; Publisher: Altium Limited; Code_JEDEC: MS-047; Code_IPC: PLCC-44
footprint PC44 (44-Pin Plastic Leaded Chip Carrier (PC44))
3D model XC9572XL-PC44 (44-Pin Plastic Leaded Chip Carrier (PC44))
signal-integrity model XC9572XL_PLCC44 (XC9500XL)
pins: 1 I/O (io), 2 I/O (io), 3 I/O (io), 4 I/O (io), 5 I/O,GCK1 (io), 6 I/O,GCK2 (io), 7 I/O,GCK3 (io), 8 I/O (io), 9 I/O (io), 10 GND (power), 11 I/O (io), 12 I/O (io), 13 I/O (io), 14 I/O (io), 15 TDI (in), 16 TMS (in), 17 TCK (in), 18 I/O (io), 19 I/O (io), 20 I/O (io), 21 VCCINT 3.3V (power), 22 I/O (io), 23 GND (power), 24 I/O (io), 25 I/O (io), 26 I/O (io), 27 I/O (io), 28 I/O (io), 29 I/O (io), 30 TDO (out), 31 GND (power), 32 VCCIO 2.5V/3.3V (power), 33 I/O (io), 34 I/O (io), 35 I/O (io), 36 I/O (io), 37 I/O (io), 38 I/O (io), 39 I/O,GSR (io), 40 I/O,GTS2 (io), 41 VCCINT 3.3V (power), 42 I/O,GTS1 (io), 43 I/O (io), 44 I/O (io)
text: Block 4; Block 1; Block 3; Block 2

## XC9572XL-10PC44I
designator U?
FastFLASH XC900XL, 3.3V High-Performance CPLD with 72 Macrocells, 44-Pin PLCC, Industrial Grade; PackageDocument: ver1.0, Jun-2000; Published: 17-Jul-2002; DatasheetDocument: ver1.4, Aug-2003; PackageReference: PC44; Publisher: Altium Limited; Code_JEDEC: MS-047; Code_IPC: PLCC-44
footprint PC44 (44-Pin Plastic Leaded Chip Carrier (PC44))
3D model XC9572XL-PC44 (44-Pin Plastic Leaded Chip Carrier (PC44))
signal-integrity model XC9572XL_PLCC44 (XC9500XL)
pins: 1 I/O (io), 2 I/O (io), 3 I/O (io), 4 I/O (io), 5 I/O,GCK1 (io), 6 I/O,GCK2 (io), 7 I/O,GCK3 (io), 8 I/O (io), 9 I/O (io), 10 GND (power), 11 I/O (io), 12 I/O (io), 13 I/O (io), 14 I/O (io), 15 TDI (in), 16 TMS (in), 17 TCK (in), 18 I/O (io), 19 I/O (io), 20 I/O (io), 21 VCCINT 3.3V (power), 22 I/O (io), 23 GND (power), 24 I/O (io), 25 I/O (io), 26 I/O (io), 27 I/O (io), 28 I/O (io), 29 I/O (io), 30 TDO (out), 31 GND (power), 32 VCCIO 2.5V/3.3V (power), 33 I/O (io), 34 I/O (io), 35 I/O (io), 36 I/O (io), 37 I/O (io), 38 I/O (io), 39 I/O,GSR (io), 40 I/O,GTS2 (io), 41 VCCINT 3.3V (power), 42 I/O,GTS1 (io), 43 I/O (io), 44 I/O (io)
text: Block 4; Block 1; Block 3; Block 2

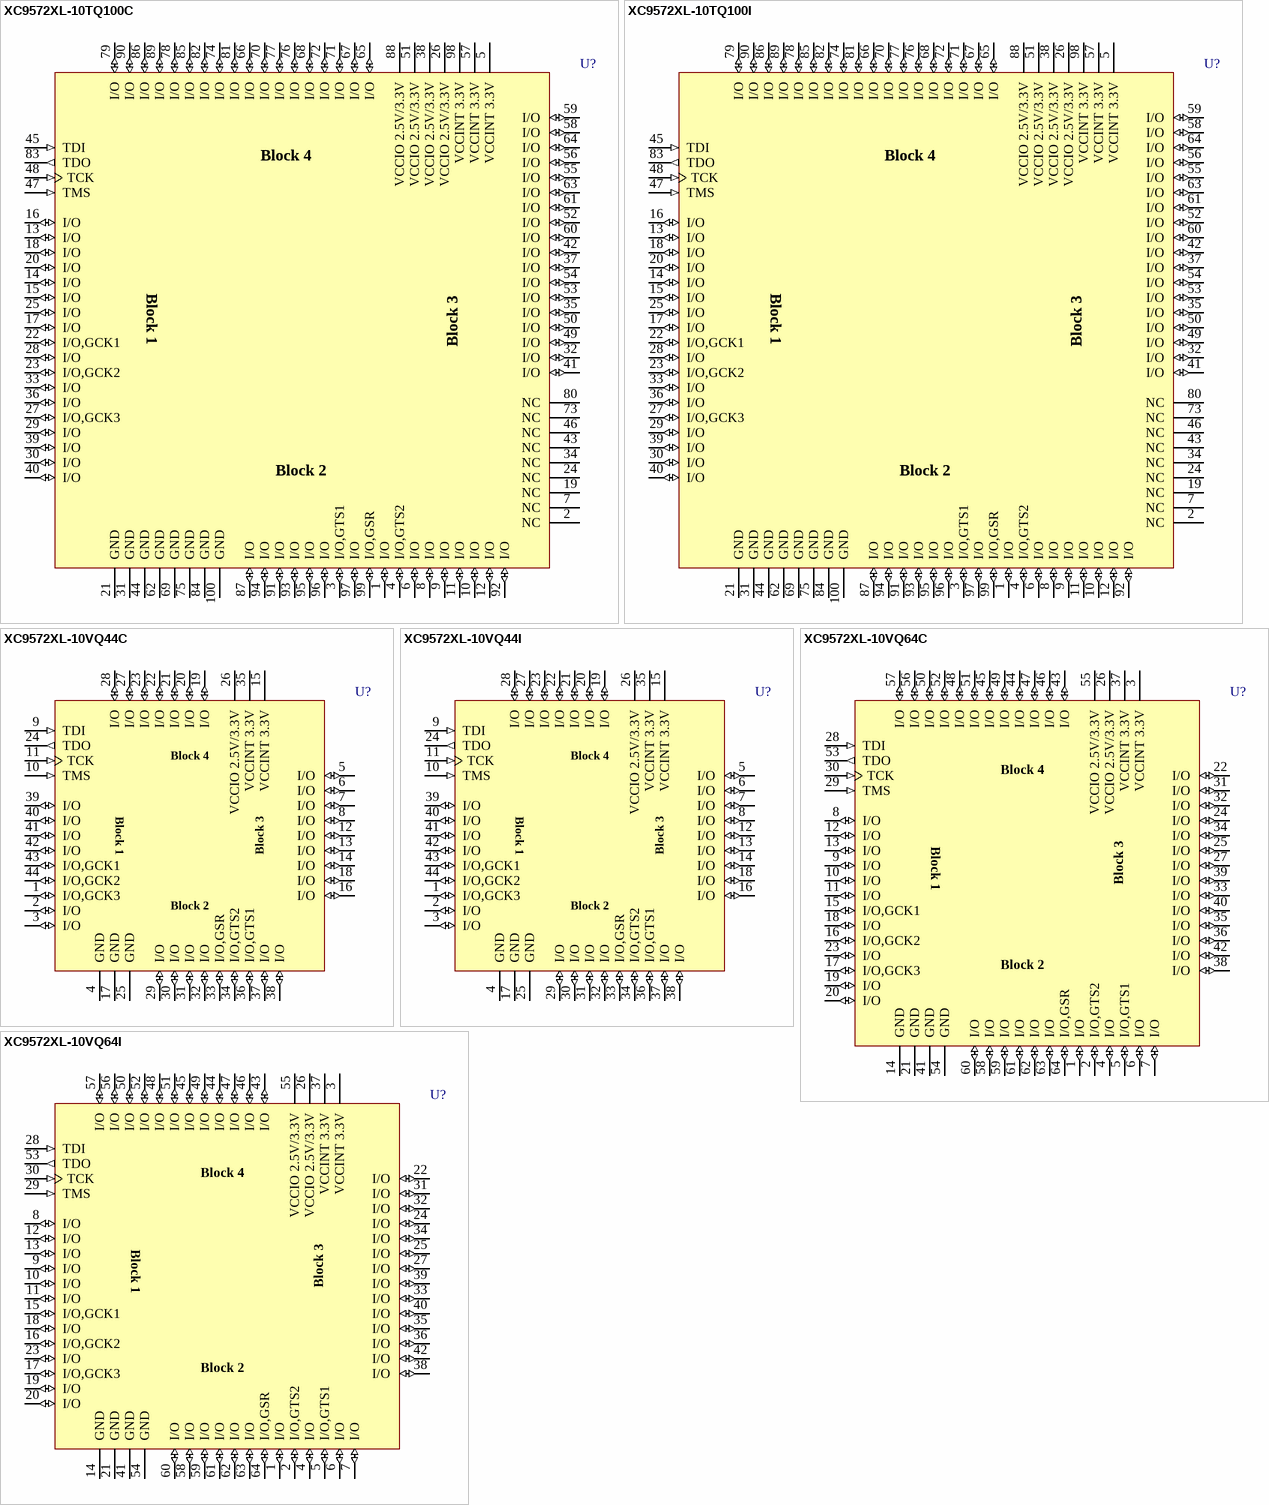
[diagram p5: symbols XC9572XL-10TQ100C to XC9572XL-10VQ64I]